# Altium schematic symbol library SenaCorpLibSCH.SchLib: 181 symbols (part 1 of 2)
Pins are listed as number, name and electrical type; pins without a type are passive.

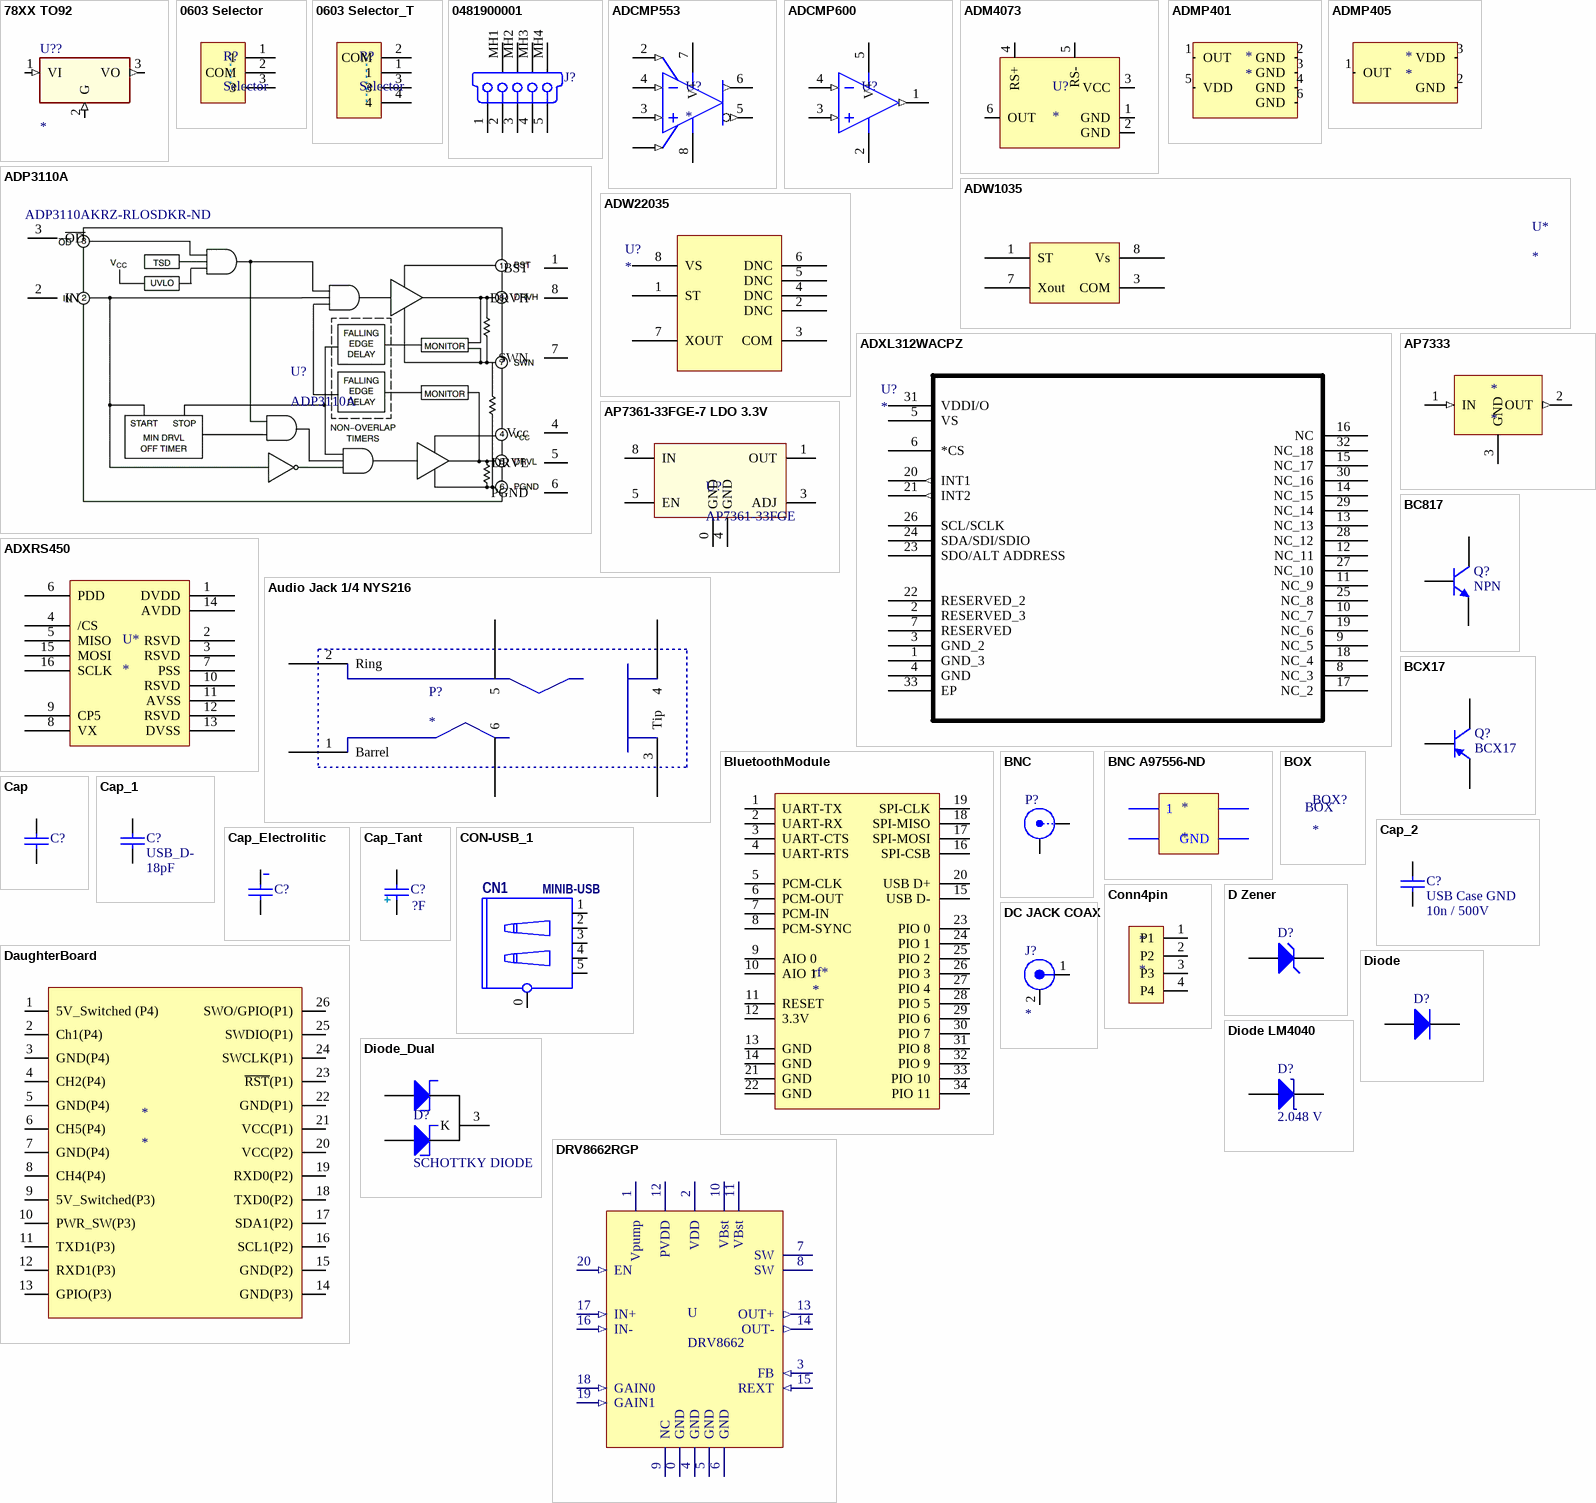
[diagram p0: symbols 78XX TO92 to DRV8662RGP]

## 78XX TO92
designator U??
footprint T0-220-H (T0-220 MOUNTED FLAT ON pcb)
pins: 1 VI (in), 2 G (in), 3 VO (out)

## 0603 Selector
designator R?, comment Selector
footprint 0603F3 (0603 Selector 2 choices, common center)
footprint 0603F3 - L Shape (0603 Selector 2 choices, common center)
pins: 1, 2 COM, 3

## 0603 Selector_T
designator R?, comment Selector
footprint 0603F3 - T Shape (0603 Selector 3 choices, common center)
pins: 1, 2 COM, 3, 4

## 0481900001
designator J?
USB On-The-Go (OTG) Mini-B Receptacle, Right Angle, SMT, 0.80mm (.031") Pitch, Solder Tabs with Back Cover, Recessed Type; PCB_Layout: Complies with Manufacturer's Recommendation.; Published: 21-Sep-2007; DatasheetVersion: revA, May-2004; PackageVersion: May-2004; PackageReference: 481900001; Publisher: Altium Limited; PackageDescription: USB Mini-B, Sinking Type, SM; 5 Position; Right Angle, Body 11.45 x 11.8 x 3.9 mm (LxWxH); ComponentLink1Description: Manufacturer Link; ComponentLink1URL: http://www.molex.com/; ComponentLink2Description: Datasheet; ComponentLink2URL: http://www.molex.com/cmc_upload/0/000/895/958/SD-48190-001RevA.pdf
footprint 481900001 (Connector; USB Mini-B, Sinking Type, SM; 5 Position; Right Angle)
signal-integrity model USB Mini-B
pins: 1 V BUS (5V) "USB Vcc [Red]", 2 D- "USB Data - [White]", 3 D+ "USB Data + [Green]", 4 NC "Not Connected (or joined to pin 5 via resistor)", 5 GND "Ground [Black]", MH1 Tab "Shell", MH2 Tab "Shell", MH3 Tab "Shell", MH4 Tab "Shell"

## ADCMP553
designator U?
Single Supply High Speed   PECL/LVPECL Comparators
footprint MSOP08 (Shrink Small Outline; 8 Leads; Body Width 3 mm; Pitch 0.65 mm)
pins: 1 ~{LEA} (in) "LATCH\ ENABLE\ INPUT", 2 LEA (in) "LATCH ENABLE INPUT", 3 IN+ (in) "NONINVERTING INPUT", 4 IN- (in) "INVERTING INPUT", 5 ~{Q} (out) "Q\ OUTPUT", 6 Q (out) "Q OUTPUT", 7 V+ (power) "Positive Supply Terminal", 8 AGND (power) "Analog Ground."

## ADCMP600
designator U?  (value not drawn)
Rail-to-Rail, Very Fast, 2.5 V to 5.5 V,   Single-Supply TTL/CMOS Comparators
footprint SOT23-5 (SOT23, 5-Leads, Body 2.9x1.6mm, Pitch 0.95mm, Lead Span 2.7mm, IPC Low Density)
footprint sc70-5
pins: 1 Q (out) "Noninverting Output. Q is at logic high if the analog voltage at the noninverting input, VP, is greater", 2 GND (power) "Negative Supply Voltage.", 3 IN+ (in) "Noninverting Analog Input.", 4 IN- (in) "Inverting Analog Input.", 5 V+ (power) "Input Section Supply/Output Section Supply. Shared pin."

## ADM4073
designator U?
Low Cost, Voltage Output,   High-Side, Current-Sense Amplifier
footprint SOT23-6_M (SOT23, 6-Leads, Body 2.9x1.6mm, Pitch 0.95mm, Lead Span 2.7mm, IPC Low Density)
pins: 1 GND "Chip Ground Pin.", 2 GND "Chip Ground Pin.", 3 VCC "Chip Power Supply. Requires a 0.1 µF capacitor to ground.", 4 RS+ "Power-Side Connection to the External Sense Resistor.", 5 RS- "Load-Side Connection to the External Sense Resistor", 6 OUT "Voltage Output. VOUT is proportional to VSENSE. Output impedance is approximately 12 kO"

## ADMP401
designator *
Omnidirectional Microphone with   Bottom Port and Analog Output
footprint LGA_CAV 6 terminal
pins: 1 OUT "ANALOG OUTPUT SIGNAL", 2 GND "GROUND", 3 GND "GROUND", 4 GND "GROUND", 5 VDD "POWER SUPPLY", 6 GND "GROUND"

## ADMP405
designator *
Omnidirectional Microphone with  Bottom Port and Analog Output
footprint LGA_CAV
pins: 1 OUT "ANALOG OUTPUT SIGNAL", 2 GND "GROUND", 3 VDD "POWER SUPPLY"

## ADP3110A
designator U?  Supplier Part Number 1: ADP3110AKRZ-RLOSDKR-ND
MOSFET Driver with Output  Disable; Voltage - Supply: 4.6 V ~ 13.2 V; Input Type: PWM; High Side Voltage - Max (Bootstrap): 35V; Configuration: High and Low Side, Synchronous; Supplier 1: Digi-Key; Pricing: 1=0.79, 10=0.666, 25=0.584, 100=0.4999, 250=0.43356, 500=0.36724, 1000=0.2831 (CAD); ComponentLink1URL: http://www.onsemi.com/pub_link/Collateral/ADP3110A-D.PDF; ComponentLink1Description: http://www.onsemi.com/pub_link/Collateral/ADP3110A-D.PDF
footprint SO8_M (SOIC, 8-Leads, Body 4.9x3.9mm, Pitch 1.27mm, IPC Low Density)
pins: 1 BST "Upper MOSFET Floating Bootstrap Supply. DIODE REQUIRED", 2 IN "Logic-Level Input. This pin has primary control of the drive outputs.", 3 ~{OD} "Output Disable. When low, normal operation is disabled forcing DRVH and DRVL low", 4 Vcc "Input Supply. A 1.0 F ceramic capacitor should be connected from this pin to PGND.", 5 DRVL "Output drive for the lower MOSFET", 6 PGND "D Power Ground. Should be closely connected to the source of the lower MOSFET", 7 SWN "Switch Node. Connect to the source of the upper MOSFET.", 8 DRVH "Output drive for the upper MOSFET."

## ADW1035
designator U*
Precision ±18 g Single-Axis iMEMS Accelerometer
footprint E_8_1 (Analog Devices LCC 8 terminal footprint)
pins: 1 ST, 2 NC hidden, 3 COM, 4 NC hidden, 5 NC hidden, 6 NC hidden, 7 Xout, 8 Vs

## ADW22035
designator U?
Precision ±18 g Single-Axis  iMEMS Accelerometer
footprint E_8_1 (Analog Devices LCC 8 terminal footprint)
pins: 1 ST, 2 DNC, 3 COM, 4 DNC, 5 DNC, 6 DNC, 7 XOUT, 8 VS

## ADXL312WACPZ
designator U?
Imported
footprint CP_32_17 (Analog Devices LFCSP 32 lead footprint)
pins: 1 GND_3, 2 RESERVED_3, 3 GND_2, 4 GND, 5 VS (power), 6 *CS, 7 RESERVED, 8 NC_3, 9 NC_5, 10 NC_7, 11 NC_9, 12 NC_11, 13 NC_13, 14 NC_15, 15 NC_17, 16 NC, 17 NC_2, 18 NC_4, 19 NC_6, 20 INT1 (out), 21 INT2 (out), 22 RESERVED_2, 23 SDO/ALT ADDRESS, 24 SDA/SDI/SDIO, 25 NC_8, 26 SCL/SCLK, 27 NC_10, 28 NC_12, 29 NC_14, 30 NC_16, 31 VDDI/O (power), 32 NC_18, 33 EP

## ADXRS450
designator U*
±300°/sec High Vibration Immunity Digital Gyroscope
footprint R-16A_M (16-Pin Small Outline Integrated Circuit 1.27 mm Pitch, IPC Low Density)
pins: 1 DVDD, 2 RSVD, 3 RSVD, 4 /CS, 5 MISO, 6 PDD, 7 PSS, 8 VX, 9 CP5, 10 RSVD, 11 AVSS, 12 RSVD, 13 DVSS, 14 AVDD, 15 MOSI, 16 SCLK

## AP7333
designator *
3.3 V regulator
footprint SOT23-3 (SOT23-3 MEDIUM DENSITY)
pins: 1 IN (in), 2 OUT (out), 3 GND

## AP7361-33FGE-7 LDO 3.3V
designator U?, comment AP7361-33FGE  Supplier Part Number: AP7361-33FGE-7DICT-ND
IC REG LDO 3.3V 1A 8DFN; Manufacturer Part Number: AP7361-33FGE-7; Manufacturer: Diodes Incorporated; Voltage - Dropout (Typical): 0.5V @ 1A; Voltage - Input: Up to 6V; Number of Regulators: 1; Current - Limit (Min): 1.1A; Regulator Topology: Positive Fixed; Supplier 1: Digi-Key; Package / Case: 8-UDFN Exposed Pad; Supplier: Digi-Key; Supplier Device Package: 8-UDFN3030; Category: Integrated Circuits (ICs); Operating Temperature: -40°C ~ 85°C; Current - Output: 1A; Voltage - Output: 3.3V; Packaging: Cut Tape (CT); RoHS: RoHS Compliant; Mounting Type: Surface Mount; Pricing: 1=0.82, 10=0.691, 25=0.6056, 100=0.5185, 250=0.44968, 500=0.3809, 1000=0.29364 (CAD); ComponentLink1URL: http://www.diodes.com/datasheets/AP7361.pdf; ComponentLink1Description: http://www.diodes.com/datasheets/AP7361.pdf
footprint DFN8 U-DFN3030-8
pins: 0 GND "Thermal Pad", 1 OUT "The output of the regulator. Bypass to ground through", 2 NC hidden "No connection.", 3 ADJ "Adjustable voltage version only – a resistor divider from", 4 GND "Ground.", 5 EN "Enable input, active high.", 6 NC hidden "No connection.", 7 NC hidden "No connection.", 8 IN "The input of the regulator. Bypass to ground through at"

## Audio Jack 1/4 NYS216
designator P?
1/4 Jack NYS216
footprint Jack (1/4 inch audio jack, stereo, switched inputs, NYS216)
pins: 1 Barrel, 2 Ring, 3 Tip, 4 "Tip", 5 "Tip", 6 "Tip"

## BC817
designator Q?, comment NPN
NPN BC817,215; Published: 8-Jun-2000; PackageVersion: Sep-1998; PackageReference: TO-92A; Publisher: Altium Limited; PackageDescription: TO, Flat Index; 3 In-Line, Axial Leads; Body Dia. 4.5mm; Leads 0.51 x 0.48 mm (max)
footprint SOT23-3 (SOT23-3 MEDIUM DENSITY)
pins: 1 B, 2 E, 3 C

## BCX17
designator Q?
PNP General-purpose Transistor; Published: 17-Sep-2003; LatestRevisionDate: 12-Dec-2006; LatestRevisionNote: IPC-7351 Footprint Added.; DatasheetVersion: 31-May-1999; PackageVersion: May-1999; PackageReference: SOT23; Publisher: Altium Limited; PackageDescription: 3-Pin SOT-23 Package 0.95 mm Pitch, 2.3 mm Lead Span; ComponentLink1Description: Manufacturer Link; ComponentLink1URL: http://www.semiconductors.philips.com/; ComponentLink2Description: Datasheet; ComponentLink2URL: http://www.semiconductors.philips.com/acrobat/datasheets/BCX17_BCX18_4.pdf
footprint SOT23_N (SOT23, 3-Leads, Body 2.9x1.3mm, Pitch 0.95mm, Lead Span 2.3mm, IPC Medium Density)
footprint SOT23_L (SOT23, 3-Leads, Body 2.9x1.3mm, Pitch 0.95mm, Lead Span 2.3mm, IPC High Density)
footprint SOT23_M (SOT23, 3-Leads, Body 2.9x1.3mm, Pitch 0.95mm, Lead Span 2.3mm, IPC Low Density)
simulation model QBCX17 (PNP)
signal-integrity model BCX17
pins: 1 B, 2 E, 3 C

## BluetoothModule
designator rf*
Bluetooth spec 2.0+edr compliant, only uart rx/tx works unless firmware changed
footprint Bluetooth Module (Flawed, please check corner)
pins: 1 UART-TX, 2 UART-RX, 3 UART-CTS, 4 UART-RTS, 5 PCM-CLK, 6 PCM-OUT, 7 PCM-IN, 8 PCM-SYNC, 9 AIO 0, 10 AIO 1, 11 RESET, 12 3.3V, 13 GND, 14 GND, 15 USB D-, 16 SPI-CSB, 17 SPI-MOSI, 18 SPI-MISO, 19 SPI-CLK, 20 USB D+, 21 GND, 22 GND, 23 PIO 0, 24 PIO 1, 25 PIO 2, 26 PIO 3, 27 PIO 4, 28 PIO 5, 29 PIO 6, 30 PIO 7, 31 PIO 8, 32 PIO 9, 33 PIO 10, 34 PIO 11

## BNC
designator P?
BNC Elbow Connector; LatestRevisionDate: 17-Jul-2002; LatestRevisionNote: Re-released for DXP Platform.; Publisher: Altium Limited
footprint BNC_RA CON (Connector; BNC Elbow)
signal-integrity model Connector
footprint BNC PCB EDGE (BNC BOARD BULKHEAD EDGE MOUNT)
pins: 1 X, 2 Y

## BNC A97556-ND
designator *
footprint BNC (Panel Mount, Bulkhead; Through Hole, Right Angle w/ Board Lock A97556-ND)
pins: 1 "Ground", 2 GND "Ground", 3 GND "Ground", 4 GND "Ground"

## BOX
designator BOX?
HM969-ND BOX ALUM 3.15X2.13X0.91" BL/NAT
footprint BOX (HM969-ND BOX ALUM 3.15X2.13X0.91" BL/NAT)
footprint Hammond Box - Larger (1455K1201 BOX ALUM 4.72X3.07X1.69" BL/NAT)

## Cap
designator C?
Capacitor; Published: 8-Jun-2000; LatestRevisionDate: 17-Jul-2002; LatestRevisionNote: Re-released for DXP Platform.; PackageReference: RAD-0.3; Publisher: Altium Limited
footprint RAD-0.3 (Capacitor; 2 Leads)
footprint VP32-3.2 (Capacitor, Ceramic, Thru-Hole, Dipped Radial; Body 5.1 x 3.2 mm (WxT) Pin Spacing 2.54 mm (typ))
footprint VP45-3.2 (Capacitor, Ceramic, Thru-Hole, Dipped Radial; Body 7.8 x 3.2 mm (WxT) Pin Spacing 5.08 mm (typ))
simulation model CAP (Capacitor)
signal-integrity model Cap
footprint CAPC1005M (Chip Capacitor, Body 1.0x0.5mm, IPC Low Density)
footprint CAPC1608M
footprint SMD0603-SST (SST SMD 0603 small silk screen)
footprint CAP-ELC-8X3.5-SM+TH
footprint 0603 (SMT  0603)
footprint C/6032-28R
pins: 1, 2

## Cap_1
designator C?, comment USB_D-  value 18pF
Capacitor; Published: 8-Jun-2000; LatestRevisionDate: 17-Jul-2002; LatestRevisionNote: Re-released for DXP Platform.; PackageReference: RAD-0.3; Publisher: Altium Limited
footprint RAD-0.3 (Capacitor; 2 Leads)
footprint VP32-3.2 (Capacitor, Ceramic, Thru-Hole, Dipped Radial; Body 5.1 x 3.2 mm (WxT) Pin Spacing 2.54 mm (typ))
footprint VP45-3.2 (Capacitor, Ceramic, Thru-Hole, Dipped Radial; Body 7.8 x 3.2 mm (WxT) Pin Spacing 5.08 mm (typ))
simulation model CAP (Capacitor)
signal-integrity model Cap
footprint CAPC1005M (Chip Capacitor, Body 1.0x0.5mm, IPC Low Density)
footprint CAPC1608M
pins: 1, 2

## Cap_2
designator C?, comment USB Case GND  value 10n / 500V
Capacitor; Published: 8-Jun-2000; LatestRevisionDate: 17-Jul-2002; LatestRevisionNote: Re-released for DXP Platform.; PackageReference: RAD-0.3; Publisher: Altium Limited
footprint RAD-0.3 (Capacitor; 2 Leads)
footprint VP32-3.2 (Capacitor, Ceramic, Thru-Hole, Dipped Radial; Body 5.1 x 3.2 mm (WxT) Pin Spacing 2.54 mm (typ))
footprint VP45-3.2 (Capacitor, Ceramic, Thru-Hole, Dipped Radial; Body 7.8 x 3.2 mm (WxT) Pin Spacing 5.08 mm (typ))
simulation model CAP (Capacitor)
signal-integrity model Cap
footprint CAPC1005M (Chip Capacitor, Body 1.0x0.5mm, IPC Low Density)
footprint CAPC1608M
pins: 1, 2

## Cap_Electrolitic
designator C?
Capacitor; Published: 8-Jun-2000; LatestRevisionDate: 17-Jul-2002; LatestRevisionNote: Re-released for DXP Platform.; PackageReference: RAD-0.3; Publisher: Altium Limited
footprint Capacitor Electrolitic 5mm
pins: 1, 2

## Cap_Tant
designator C?  value ?F
Capacitor; Published: 8-Jun-2000; LatestRevisionDate: 17-Jul-2002; LatestRevisionNote: Re-released for DXP Platform.; PackageReference: RAD-0.3; Publisher: Altium Limited
footprint C 6032-28R (Cap 2413 6032-28)
pins: +, -

## CON-USB_1
designator CN1, comment MINIB-USB
Manufacturer: Hirose Electric; MPNPV: UX60-MB-5ST; PN-SST: 325-022; ID-PV: 557; SMT: TH; CostPV: 0.3; descPV: MINI "B" USB 5P SMT; statPV: U; typePV: CONNECTOR; VAL: MINIB-USB; DigiKeyPartNumber: H2959TR-ND; IDPV: 557
footprint USB-B
footprint MINIB/HSM/HRS-NEW
footprint MINIB/HSM/HRS-NEW_CN1
footprint USB-B-mini-SMT (Hirose)
footprint USB Type B  Micro Plug (USB Type B  Micro Plug 10104109-0001LF 609-4051-ND)
footprint Micro USB IP67
pins: 0 GND, 1, 2, 3, 4, 5

## Conn4pin
designator *
footprint Bourns 70AB/Male (4 conn)
pins: 1 P1, 2 P2, 3 P3, 4 P4

## D Zener
designator D?
Zener Diode; Published: 8-Jun-2000; LatestRevisionDate: 17-Jul-2002; LatestRevisionNote: Re-released for DXP Platform.; PackageReference: DIODE-0.7; Publisher: Altium Limited; PackageDescription: Diode, Thru-Hole; 2 Leads; 0.7 in Pin Spacing
footprint DIODE-0.7 (Diode, Thru-Hole; 2 Leads; 0.7 in Pin Spacing)
simulation model ZENER (Diode)
signal-integrity model D Zener
pins: 1 A, 2 K

## DaughterBoard
designator *
footprint PowerBoardDaughter (Daughter board for power PCB)
pins: 1 5V_Switched (P4), 2 Ch1(P4), 3 GND(P4), 4 CH2(P4), 5 GND(P4), 6 CH5(P4), 7 GND(P4), 8 CH4(P4), 9 5V_Switched(P3) "Connector used for databoard", 10 PWR_SW(P3) "Connector used for databoard", 11 TXD1(P3) "Connector used for databoard", 12 RXD1(P3) "Connector used for databoard", 13 GPIO(P3) "Connector used for databoard", 14 GND(P3) "Connector used for databoard", 15 GND(P2), 16 SCL1(P2), 17 SDA1(P2), 18 TXD0(P2), 19 RXD0(P2), 20 VCC(P2), 21 VCC(P1) "Connector used for JTAG on power board MCU", 22 GND(P1) "Connector used for JTAG on power board MCU", 23 ~{RST}(P1) "Connector used for JTAG on power board MCU", 24 SWCLK(P1) "Connector used for JTAG on power board MCU", 25 SWDIO(P1) "Connector used for JTAG on power board MCU", 26 SWO/GPIO(P1) "Connector used for JTAG on power board MCU"

## DC JACK COAX
designator J?
footprint POWERJACK/2MM
footprint DC Barrel jack (CP-063AH-ND)
footprint DC Barrel Jack 2 (CP-102AH-ND  CONN PWR JACK 2.1X5.5MM HIGH CUR)
footprint DC Barrel jack - No Shield (CP-063AH-ND CONN PWR JACK DC 2.1X5.5 8A T/H)
footprint DC Barrel jack - SMD (CP-002BHPJCT-ND CONN POWER JACK 2.5X5.5MM HI CUR)
pins: 1 CENTER, 2 SHIELD

## Diode
designator D?
Default Diode; Published: 8-Jun-2000; LatestRevisionDate: 17-Jul-2002; LatestRevisionNote: Re-released for DXP Platform.; PackageVersion: Sep-1996; PackageReference: SMC; Publisher: Altium Limited; PackageDescription: DO-214-AB/SMC; 2 C-Bend Leads; Body 7.9 x 5.9 mm, inc. leads (LxW); Code_JEDEC: DO-214-AB
footprint SMC (DO-214-AB/SMC; 2 C-Bend Leads; Body 7.9 x 5.9 mm, inc. leads (LxW))
simulation model DIODE (Diode)
signal-integrity model Diode
footprint DIODE_SMA_SMC (Diode; 2 Leads, both SMC and SMA type)
footprint SOD-123 (SOD-123; 2 Leads; Body 2.7 x 1.6 mm, (LxW))
pins: 1 A, 2 K

## Diode LM4040
designator D?, comment 2.048 V
PRECISION MICROPOWER SHUNT VOLTAGE REFERENCE; Note: Pin 3 is not connected and not drawn.; Published: 21-Mar-2003; PackageVersion: Sep-2001; PackageReference: SOT-23; Publisher: Altium Limited; PackageDescription: 3-Pin SOT-23 Package 0.95 mm Pitch, 2.5 mm Lead Span
footprint SOT-23_N (SOT23, 3-Leads, Body 2.9x1.3mm, Pitch 0.95mm, Lead Span 2.5mm, IPC Medium Density)
footprint SOT-23_L (SOT23, 3-Leads, Body 2.9x1.3mm, Pitch 0.95mm, Lead Span 2.5mm, IPC High Density)
footprint SOT-23_M (SOT23, 3-Leads, Body 2.9x1.3mm, Pitch 0.95mm, Lead Span 2.5mm, IPC Low Density)
simulation model D188 (DIODE)
pins: 1 K, 2 A

## Diode_Dual
designator D?, comment SCHOTTKY DIODE
1 Pair Common Cathode
simulation model DIODE (Diode)
signal-integrity model Diode
footprint SOT23-3 (SOT23-3 MEDIUM DENSITY)
pins: 1 A1, 2 A2, 3 K

## DRV8662RGP
designator U, comment DRV8662
Piezo Haptic Driver with Integrated Boost Converter
footprint QFN50P400X400-20VM (QFN, 20-Leads, Body 4x4mm, Pitch 0.5mm, IPC Low Density)
pins: 0 GND (power) "Ground Plane", 1 Vpump (power) "Internal Charge-pump voltage", 2 VDD (power) "Power supply (connect to battery)", 3 FB (in) "Boost feedback", 4 GND (power) "Ground", 5 GND (power) "Ground", 6 GND (power) "Ground", 7 SW (power) "Internal boost switch pin", 8 SW (power) "Internal boost switch pin", 9 NC "No Conect", 10 VBst (power) "Boost output voltage", 11 VBst (power) "Boost output voltage", 12 PVDD (power) "Amplifier supply voltage", 13 OUT+ (out) "Non-inverting output", 14 OUT- (out) "Inverting output", 15 REXT (in) "Resistor to ground, sets boost current limit", 16 IN- (in) "Inverting input", 17 IN+ (in) "Non-inverting input", 18 GAIN0 (in) "Gain programming pin - LSB", 19 GAIN1 (in) "Gain programming pin - MSB", 20 EN (in) "Chip enable"

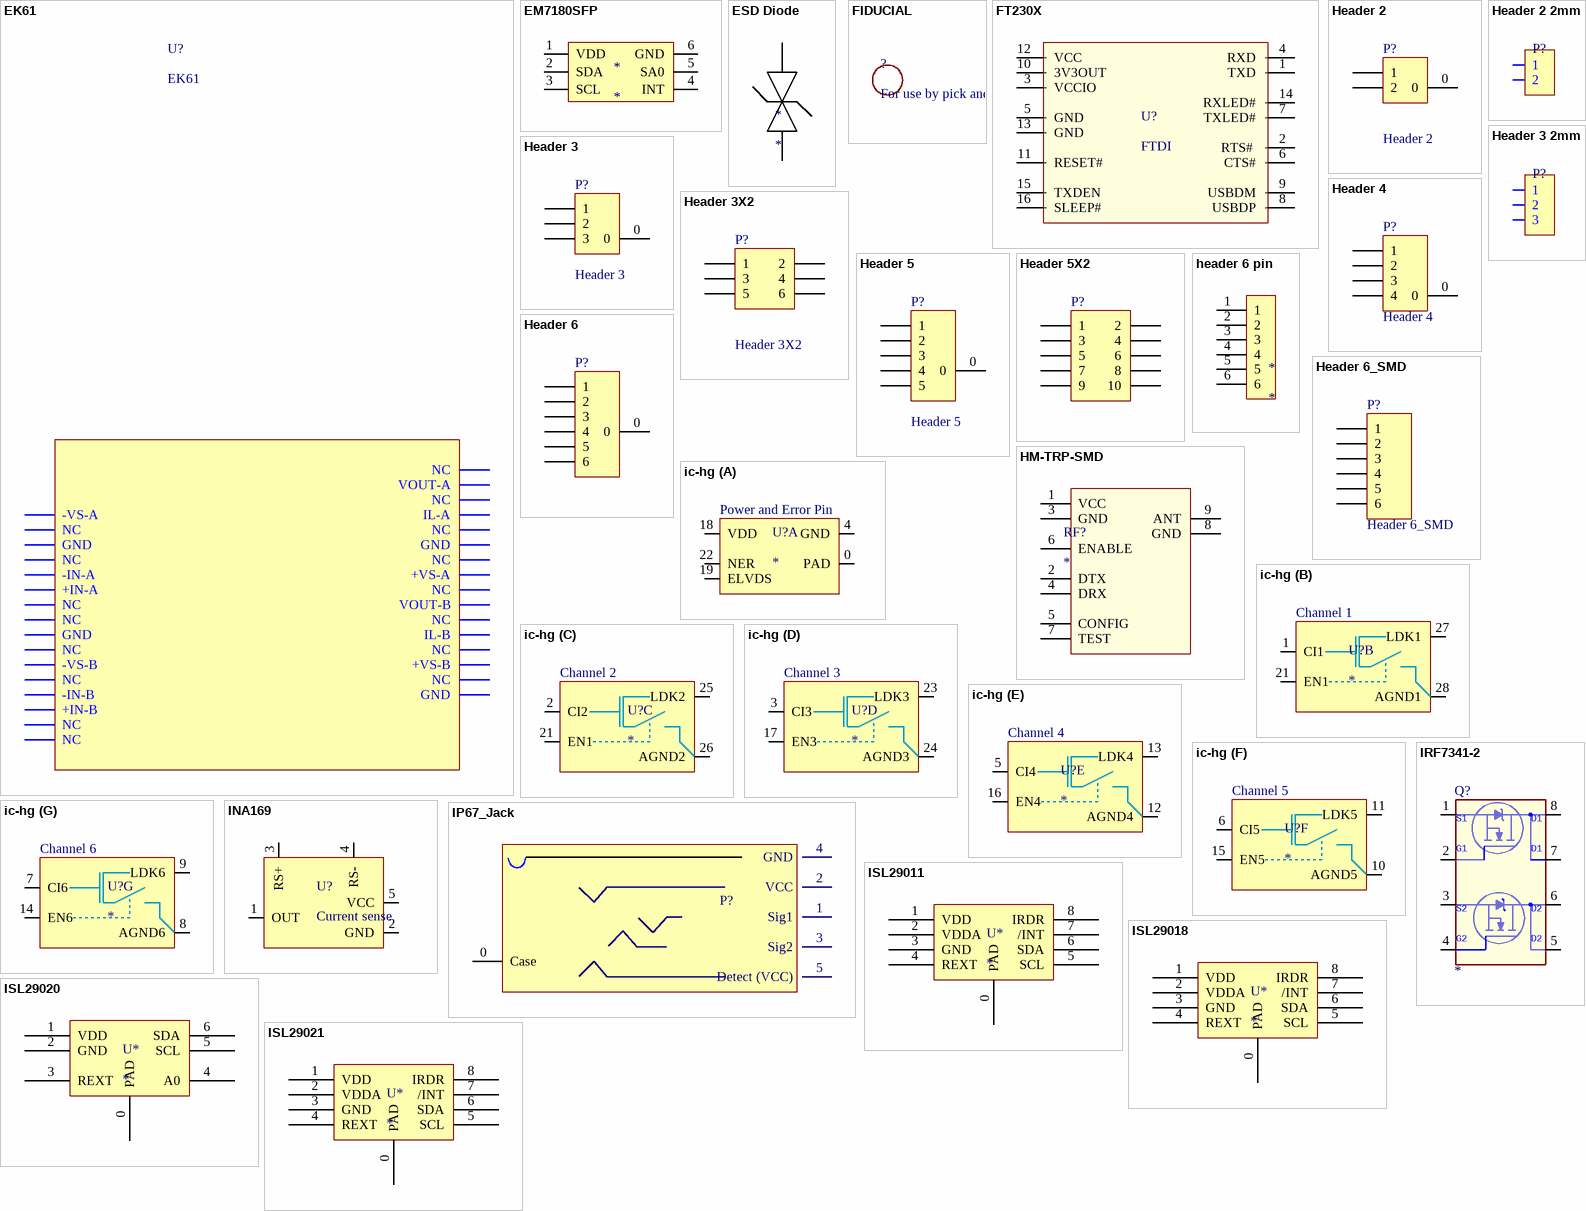
[diagram p1: symbols EK61 to ISL29021]

## EK61
designator U?
PA79 Pa78 Dev board
footprint EK61
pins: 1 NC, 2 NC, 3 +IN-B "B +IN", 4 -IN-B "B -IN", 5 NC, 6 -VS-B "B SUPPLY -", 7 NC, 8 GND "Ground", 9 NC, 10 NC, 11 +IN-A "A +IN", 12 -IN-A "A -IN", 13 NC, 14 GND "Ground", 15 NC, 16 -VS-A "A SUPPLY -", 17 NC, 18 VOUT-A "A VOUT", 19 NC, 20 IL-A "A CURRENT LIMIT", 21 NC, 22 GND "Ground", 23 NC, 24 +VS-A "A SUPPLY +", 25 NC, 26 VOUT-B "B VOUT", 27 NC, 28 IL-B "B CURRENT LIMIT", 29 NC, 30 +VS-B "B SUPPY +", 31 NC, 32 GND "Ground"

## EM7180SFP
designator *
footprint EM7180SFP (EM Micro IMU)
pins: 1 VDD, 2 SDA, 3 SCL, 4 INT, 5 SA0, 6 GND

## ESD Diode
designator *
footprint 0402
pins: 1, 2

## FIDUCIAL
designator ?, comment For use by pick and place machines to calibrate the vision/machine, 1mm / <p>By microbuilder.eu</p>
footprint FIDUCIAL_1MM

## FT230X
designator U?, comment FTDI
FT230X USB TO BASIC UART IC
footprint SOP64P600X175-16N (SOP, 16-Leads, Body 4.90x3.91mm, Pitch 0.64mm, IPC Medium Density)
footprint QFN65P400X400X80_HS-17N (QFN, 16-Leads, Body 4.00x4.00mm, Pitch 0.65mm, Thermal Pad 2.08x2.08mm, IPC Medium Density)
pins: 1 TXD "Transmit Asynchronous Data Output.", 2 RTS#  "Request to Send Control Output / Handshake Signal.", 3 VCCIO "1V8 - 3V3 supply for the IO cells", 4 RXD "Receiving Asynchronous Data Input.", 5 GND "0V Ground input.", 6 CTS# "Clear To Send Control Input / Handshake Signal.", 7 TXLED# "The default configuration is TXLED#.", 8 USBDP "USB Data Signal Plus.", 9 USBDM "USB Data Signal Minus.", 10 3V3OUT "3V3 output at 50mA. May be used to power VCCIO.", 11 RESET# "Reset input (active low).", 12 VCC "5 V (or 3V3) supply to IC", 13 GND "0V Ground input.", 14 RXLED# "The default configuration is RXLED#.", 15 TXDEN "The default configuration is TXDEN", 16 SLEEP# "The default configuration is SLEEP#"

## Header 2
designator P?
Header, 2-Pin; LatestRevisionDate: 17-Jul-2002; LatestRevisionNote: Re-released for DXP Platform.; Publisher: Altium Limited
signal-integrity model Connector
footprint DF13 2pin (DF13 2pin 1.25mm pitch)
footprint PTSM 0,5/ 2-2,5-H (PCB terminal block Pitch: 2.5 mm, Number of positions: 2, Connection method: Spring-cage connection)
pins: 0, 1, 2

## Header 2 2mm
designator P?  (value not drawn)
footprint Header 2 2mm (SIP Header 2.0mm 2 pins)
pins: 1, 2

## Header 3
designator P?
Header, 3-Pin; LatestRevisionDate: 17-Jul-2002; LatestRevisionNote: Re-released for DXP Platform.; Publisher: Altium Limited
signal-integrity model Connector
footprint DF13 3pin (DF13 3pin 1.25mm pitch)
pins: 0, 1, 2, 3

## Header 3 2mm
designator P?  (value not drawn)
footprint Header 3 2mm (SIP Header 2.0mm 3 pins)
pins: 1, 2, 3

## Header 3X2
designator P?
Header, 3-Pin, Dual row; LatestRevisionDate: 17-Jul-2002; LatestRevisionNote: Re-released for DXP Platform.; Publisher: Altium Limited
signal-integrity model Connector
footprint m50- 3 x  2 (smd connector)
pins: 1, 2, 3, 4, 5, 6

## Header 4
designator P?
Header, 4-Pin; LatestRevisionDate: 17-Jul-2002; LatestRevisionNote: Re-released for DXP Platform.; Publisher: Altium Limited
signal-integrity model Connector
footprint DF13 4pin (DF13 4pin 1.25mm pitch)
pins: 0, 1, 2, 3, 4

## Header 5
designator P?
Header, 5-Pin; LatestRevisionDate: 17-Jul-2002; LatestRevisionNote: Re-released for DXP Platform.; Publisher: Altium Limited
footprint HDR1X5 (Connector; Header; 5 Position)
signal-integrity model Connector
footprint DF13 5pin (DF13 5pin 1.25mm pitch)
pins: 0, 1, 2, 3, 4, 5

## Header 5X2
designator P?
Header, 5-Pin, Dual row; LatestRevisionDate: 17-Jul-2002; LatestRevisionNote: Re-released for DXP Platform.; Publisher: Altium Limited
signal-integrity model Connector
footprint m50-3600542 (ARM JTAG) (ARM JTAG smd connector)
footprint Two sided Jtag (ARM JTAG smd connector)
footprint Header 2 x 5 1.27mm
pins: 1, 2, 3, 4, 5, 6, 7, 8, 9, 10

## Header 6
designator P?
Header, 6-Pin; LatestRevisionDate: 17-Jul-2002; LatestRevisionNote: Re-released for DXP Platform.; Publisher: Altium Limited
footprint HDR1X6 (Connector; Header; 6 Position)
signal-integrity model Connector
footprint DF13 6pin (DF13 6pin 1.25mm pitch)
pins: 0, 1, 2, 3, 4, 5, 6

## header 6 pin
designator *
footprint Header 6 1.27mm (SIP Header 1.27mm 6 pins)
footprint Ribbon 6 Pad
pins: 1, 2, 3, 4, 5, 6

## Header 6_SMD
designator P?
Header, 6-Pin SMD; LatestRevisionDate: 17-Jul-2002; LatestRevisionNote: Re-released for DXP Platform.; Publisher: Altium Limited
footprint HDR1X6 (Connector; Header; 6 Position)
signal-integrity model Connector
footprint Header 1 x 6 1.27mm
footprint Header 6 1.27mm (SIP Header 1.27mm 6 pins)
pins: 1, 2, 3, 4, 5, 6

## HM-TRP-SMD
designator RF?
HM-TRP Series 100mW Transceiver modules V1.0
footprint HM-TRP (HM-TRP Series 100mW Transceiver modules V1.0)
footprint HM-TRP - SMD (HM-TRP Series 100mW Transceiver modules V1.0)
pins: 1 VCC "Power supply recommendation 3.3V DC", 2 DTX "Data transmission", 3 GND "Ground", 4 DRX "Data receiving", 5 CONFIG "Set low for configuration mode, while set high for communication", 6 ENABLE "Set low for normal mode for data transceiver , while back to sleep if set high", 7 TEST "n/c", 8 GND "Ground", 9 ANT "Input/output interface with 50 ohm antenna"

## ic-hg
designator U?
3 A LASER SWITCH
footprint QFN28 (28-Pin Plastic Quad Flat No-Lead 0.5 mm Pitch, IPC Low Density)
part A pins: 0 PAD "Thermal Pad GND, AGNDx", 4 GND "Ground", 18 VDD "Supply voltage", 19 ELVDS "TTL/LVDS Fast/Slow Input selector", 22 NER "Error monitor output"
part B pins: 1 CI1 "Current control voltage channel 1", 21 EN1 "TTL switching input channel 1", 27 LDK1 "Laser diode cathode channel 1", 28 AGND1 "Analog ground channel 1"
part C pins: 2 CI2 "Current control voltage channel 2", 21 EN1 "TTL switching input channel 1", 25 LDK2 "Laser diode cathode channel 2", 26 AGND2 "Analog ground channel 2"
part D pins: 3 CI3 "Current control voltage channel 3", 17 EN3 "TTL switching input channel 3", 23 LDK3 "Laser diode cathode channel 3", 24 AGND3 "Analog ground channel 3"
part E pins: 5 CI4 "Current control voltage channel 4", 12 AGND4 "Analog ground channel 4", 13 LDK4 "Laser diode cathode channel 4", 16 EN4 "TTL switching input channel 4"
part F pins: 6 CI5 "Current control voltage channel 5", 10 AGND5 "Analog ground channel 5", 11 LDK5 "Laser diode cathode channel 5", 15 EN5 "TTL switching input channel 5"
part G pins: 7 CI6 "Current control voltage channel 6", 8 AGND6 "Analog ground channel 6", 9 LDK6 "Laser diode cathode channel 6", 14 EN6 "TTL switching input channel 6"
part A text: Power and Error Pin
part B text: Channel 1
part C text: Channel 2
part D text: Channel 3
part E text: Channel 4
part F text: Channel 5
part G text: Channel 6

## INA169
designator U?, comment Current sense
High-Side Measurement Current Shunt Monitor, Current Output
footprint SOT23-5 (SOT23, 5-Leads, Body 2.9x1.6mm, Pitch 0.95mm, Lead Span 2.7mm, IPC Low Density)
pins: 1 OUT "Voltage Output. VOUT is proportional to VSENSE. Output impedance is approximately 12 kO", 2 GND "Chip Ground Pin.", 3 RS+ "Power-Side Connection to the External Sense Resistor.", 4 RS- "Load-Side Connection to the External Sense Resistor", 5 VCC "Chip Power Supply. Requires a 0.1 µF capacitor to ground."

## IP67_Jack
designator P?  (value not drawn)
IP67 4 pole jack
footprint AudioJack IPX7 (LGY2109-3900F)
pins: 0 Case, 1 Sig1, 2 VCC, 3 Sig2, 4 GND, 5 Detect (VCC)

## IRF7341-2
designator Q?
footprint SOIC8/.150
footprint SO8
pins: 1 S1, 2 G1, 3 S2, 4 G2, 5 D2, 6 D2, 7 D1, 8 D1

## ISL29011
designator U*
Digital Ambient Light Sensor and Proximity Sensor with Interrupt Function
footprint 8 LD ODFN
pins: 0 PAD, 1 VDD, 2 VDDA, 3 GND, 4 REXT, 5 SCL, 6 SDA, 7 /INT, 8 IRDR

## ISL29018
designator U*
Digital Ambient Light Sensor and Proximity Sensor with Interrupt Function
footprint 8 LD ODFN
pins: 0 PAD, 1 VDD, 2 VDDA, 3 GND, 4 REXT, 5 SCL, 6 SDA, 7 /INT, 8 IRDR

## ISL29020
designator U*
A Low Power, High Sensitivity, Light-to Digital Sensor With I2C Interface
footprint 6 LD ODFN
pins: 0 PAD, 1 VDD, 2 GND, 3 REXT, 4 A0, 5 SCL, 6 SDA

## ISL29021
designator U*
Digital Proximity Sensor with Interrupt  Function
footprint 8 LD ODFN
pins: 0 PAD, 1 VDD, 2 VDDA, 3 GND, 4 REXT, 5 SCL, 6 SDA, 7 /INT, 8 IRDR

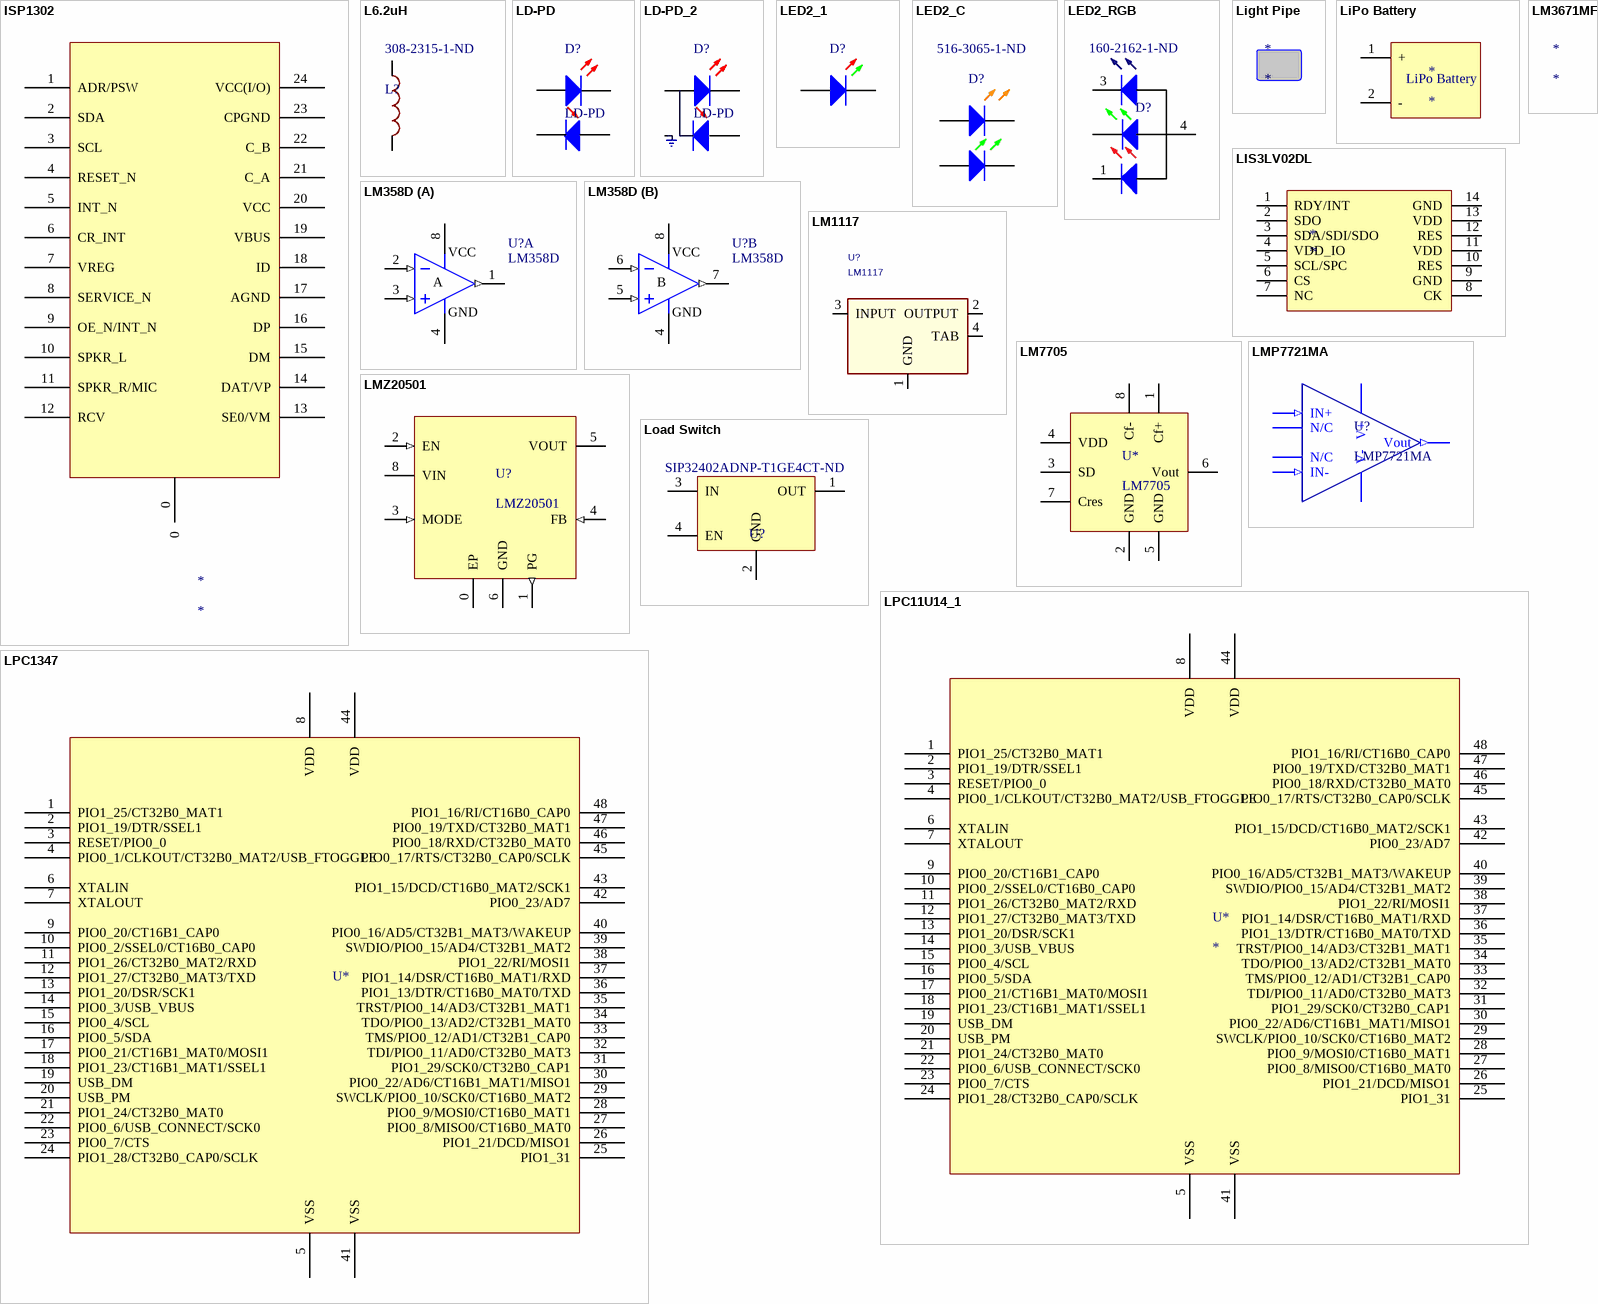
[diagram p2: symbols ISP1302 to LPC1347]

## ISP1302
designator *
footprint QFN50P400X400-24W6M (QFN, 24-Leads, Body 4x4mm, Pitch 0.5mm, IPC Low Density)
pins: 0, 1 ADR/PSW, 2 SDA, 3 SCL, 4 RESET_N, 5 INT_N, 6 CR_INT, 7 VREG, 8 SERVICE_N, 9 OE_N/INT_N, 10 SPKR_L, 11 SPKR_R/MIC, 12 RCV, 13 SE0/VM, 14 DAT/VP, 15 DM, 16 DP, 17 AGND (power), 18 ID, 19 VBUS, 20 VCC (power), 21 C_A, 22 C_B, 23 CPGND (power), 24 VCC(I/O) (power)

## L6.2uH
designator L?, comment Supplier Part Number 1: 308-2315-1-ND  (hidden comment: 6.2uH)
Inductor; Tolerance: ±30%; Supplier 1: Digi-Key; Pricing: 1=1.36, 10=1.199, 25=1.1244, 50=0.9746, 100=0.8996, 500=0.77962 (CAD); ComponentLink1Description: http://products.sumida.com/products/pdf/CDRH6D38.pdf
footprint Inductor (non Std)
pins: 1, 2

## LD-PD
designator D?
Laser diode with Monitor Photodiode; Published: 8-Jun-2000; LatestRevisionDate: 17-Jul-2002; LatestRevisionNote: Re-released for DXP Platform.; PackageVersion: Feb-2002; PackageReference: 3.2X1.6X1.1; Publisher: Altium Limited; PackageDescription: SM LED; 2 Flat Leads
footprint ld pd (Edge Connected Laser diode with photodiode)
footprint LD (chinese) (Bottom View of Laser driver (mounted from opposite side))
pins: 1 LD-A "Laser diode Anode and PD Cathode", 2 LD-K "Laser Diode Cathode", 3 PD-A "Photodidoe Anode", 4 PD-K "Photodidoe Cathode"

## LD-PD_2
designator D?, comment LD-PD
Laser diode with Monitor Photodiode; Published: 8-Jun-2000; LatestRevisionDate: 17-Jul-2002; LatestRevisionNote: Re-released for DXP Platform.; PackageVersion: Feb-2002; PackageReference: 3.2X1.6X1.1; Publisher: Altium Limited; PackageDescription: SM LED; 2 Flat Leads
footprint ld pd (Edge Connected Laser diode with photodiode)
pins: 1 GND "Case Gnd", 2 LD-K "Laser Diode Cathode", 3 PD-A "Photodidoe Anode", 4 LD-A "Laser diode Anode and PD Cathode"

## LED2_1
designator D?
Typical RED, GREEN, YELLOW, AMBER GaAs LED; Published: 8-Jun-2000; LatestRevisionDate: 17-Jul-2002; LatestRevisionNote: Re-released for DXP Platform.; PackageVersion: Feb-2002; PackageReference: 3.2X1.6X1.1; Publisher: Altium Limited; PackageDescription: SM LED; 2 Flat Leads
footprint LED0603 (SMT LED 0603)
simulation model LED2 (Diode)
pins: 1 A, 2 K

## LED2_C
designator D?  Supplier Part Number: 516-3065-1-ND  (hidden comment: LED2_C)
Two Color Led; Manufacturer: Avago Technologies US Inc.; Manufacturer Part Number: HSMF-C167; Current - Test: 20mA Green, 20mA Orange; Wavelength - Peak: 570nm Green, 605nm Orange; Millicandela Rating: 15mcd Green, 8mcd Orange; Lens Color: White; Voltage - Forward (Vf) (Typ): 2.2V Green, 2.2V Orange; Color: Green, Orange; Lens Style/Size: Rectangle with Flat Top, 1.60mm x 0.80mm; Wavelength - Dominant: 572nm Green, 604nm Orange; Viewing Angle: 120°; Lens Transparency: Diffused; Published: 8-Jun-2000; LatestRevisionDate: 17-Jul-2002; LatestRevisionNote: Re-released for DXP Platform.; PackageVersion: Feb-2002; PackageReference: 3.2X1.6X1.1; Publisher: Altium Limited; PackageDescription: SM LED; 2 Flat Leads; Supplier 1: Digi-Key; Category: Optoelectronics; Packaging: Cut Tape (CT); Height (Max): 0.50mm; Package / Case: 0603 (1608 Metric); RoHS: RoHS Compliant; Supplier Device Package: *; Supplier: Digi-Key; Mounting Type: Surface Mount; Size / Dimension: 1.60mm L x 0.80mm W; Pricing: 1=0.7, 10=0.54, 25=0.4392, 100=0.3494, 250=0.29952, 500=0.25958, 1000=0.19576 (CAD); ComponentLink1URL: http://www.avagotech.com/docs/AV02-0584EN; ComponentLink1Description: http://www.avagotech.com/docs/AV02-0584EN
footprint LED 2Color (HSMF-C16x 516-3065-1-ND)
pins: 1 A1, 2 K1, 3 A2, 4 K2

## LED2_RGB
designator D?  Supplier Part Number: 160-2162-1-ND  (hidden comment: LED2_RGB)
RGB Led; Manufacturer Part Number: LTST-C19HE1WT; Manufacturer: Lite-On Inc; Lens Transparency: Diffused; Millicandela Rating: 112.5mcd Red, 281mcd Green, 104mcd Blue; Wavelength - Dominant: 624nm Red, 525nm Green, 470nm Blue; Wavelength - Peak: 632nm Red, 520nm Green, 468nm Blue; Lens Color: White; Current - Test: 20mA Red, 20mA Green, 20mA Blue; Voltage - Forward (Vf) (Typ): 2.1V Red, 3.35V Green, 3.35V Blue; Color: Red, Green, Blue (RGB); Lens Style/Size: Rectangle with Flat Top, 1.15mm x 1.60mm; Viewing Angle: 130°; Package / Case: 0606 (1616 Metric); Supplier: Digi-Key; Height (Max): 0.35mm; Size / Dimension: 1.60mm L x 1.60mm W; RoHS: RoHS Compliant; Mounting Type: Surface Mount; Category: Optoelectronics; Packaging: Cut Tape (CT); Supplier Device Package: *; Pricing: 1=0.82, 10=0.632, 100=0.4097, 250=0.35112, 500=0.3043, 1000=0.23407 (CAD); ComponentLink1URL: http://optoelectronics.liteon.com/upload/download/DS22-2008-0044/S_110_LTST-C19HE1WT.pdf; ComponentLink1Description: http://optoelectronics.liteon.com/upload/download/DS22-2008-0044/S_110_LTST-C19HE1WT.pdf
footprint LED RGB (160-2162-1-ND)
pins: 1, 2, 3, 4

## Light Pipe
designator *

## LiPo Battery
designator *
footprint LiPo Battery (2000mAh)
pins: 1 +, 2 -

## LIS3LV02DL
designator *
MEMS inertial sensor  3-axis - ±2g/±6g digital output low voltage linear accelerometer
footprint LCC16
pins: 1 RDY/INT, 2 SDO, 3 SDA/SDI/SDO, 4 VDD_IO, 5 SCL/SPC, 6 CS, 7 NC, 8 CK, 9 GND, 10 RES, 11 VDD, 12 RES, 13 VDD, 14 GND

## LM358D
designator U?
Dual Operational Amplifier; Published: 16-Jan-2001; LatestRevisionDate: 13-Apr-2006; LatestRevisionNote: IPC-7351 Footprint Added.; DatasheetVersion: Jul-1998; PackageVersion: Jan-1998; PackageReference: D008; Publisher: Altium Limited; PackageDescription: 8-Pin Small Outline Integrated Circuit 1.27 mm Pitch; Code_IPC: SOIC127P600-8; ComponentLink1Description: Manufacturer Link; ComponentLink1URL: http://www.ti.com/; ComponentLink2Description: Datasheet; ComponentLink2URL: http://www-s.ti.com/sc/ds/lm358.pdf
footprint D008_L (SOIC, 8-Leads, Body 4.9x3.9mm, Pitch 1.27mm, IPC High Density)
3D model D008 (PCB3D Model)
simulation model LM358 (SUBCKT)
pins on every part: 4 V- (power), 8 V+ (power)
part A pins: 1 OUT (out), 2 IN- (in), 3 IN+ (in)
part B pins: 5 IN+ (in), 6 IN- (in), 7 OUT (out)
part A text: VCC; A; GND
part B text: VCC; B; GND

## LM1117
designator U?
footprint SOT223 - 4 (SOT223-4)
pins: 1 GND, 2 OUTPUT, 3 INPUT, 4 TAB

## LM3671MF
designator *

## LM7705
designator U*
Low Noise Negative Bias Generator
footprint SO8
pins: 1 Cf+ "CFLY Positive Capacitor Connection", 2 GND "Power Ground", 3 SD "Shutdown Pin", 4 VDD "Positive Supply Voltage", 5 GND "Power Ground", 6 Vout "Output Voltage", 7 Cres "Reserve Capacitor Connection", 8 Cf- "CFLY Negative Capacitor Connection"

## LMP7721MA
designator U?
3 Femtoampere Input Bias Current Precision Amplifier
footprint D008_L (SOIC, 8-Leads, Body 4.9x3.9mm, Pitch 1.27mm, IPC High Density)
pins: 1 IN+ (in) "Input +", 2 N/C, 3 V- "Negative Supply", 4 Vout (out) "Output", 5 N/C hidden, 6 V+ "Positive Supply", 7 N/C, 8 IN- (in) "Input -"

## LMZ20501
designator U?
LMZ20501 1.0 A SIMPLE SWITCHER® Nano Module
pins: 0 EP (power) "Ground and heat-sink connection.", 1 PG (out) "Power good flag; open drain. Connect to logic supply through a resistor. High = power good; Low =", 2 EN (in) "Enable input. High = On, Low = Off. A valid input voltage, on pin 8, must be present before EN is", 3 MODE (in) "Mode selection input. High = forced PWM. Low = AUTO mode, with PFM at light load . Do not float", 4 FB (in) "Feedback input to controller. Connect to output through feedback divider.", 5 VOUT (power) "Regulated output voltage; connect to COUT.", 6 GND (power) "Ground for all circuitry. Reference point for all voltages", 7 NC hidden "This pin must be left floating. Do not connect to ground or any other node.", 8 VIN (power) "Input supply to regulator. Connect to input capacitor(s) as close as possible to the VIN pin and GND"

## Load Switch
designator U?  Supplier Part Number: SIP32402ADNP-T1GE4CT-ND  (hidden comment: Load Switch)
IC SW W/CTRL SLEW RATE 4TDFN; Manufacturer: Vishay Siliconix; Manufacturer Part Number: SIP32402ADNP-T1GE4; Current - Output (Max): 2.4A; Fault Protection: Reverse Current; Voltage - Supply (Vcc/Vdd): Not Required; Rds On (Typ): 62 mOhm; Switch Type: General Purpose; Ratio - Input:Output: 1:1; Output Configuration: High Side; Interface: On/Off; Output Type: N-Channel; Number of Outputs: 1; Voltage - Load: 1.1 V ~ 5.5 V; Input Type: Non-Inverting; ComponentLink1URL: http://www.vishay.com/docs/63705/sip32401a.pdf; ComponentLink1Description: http://www.vishay.com/docs/63705/sip32401a.pdf; Pricing: 1=0.78, 10=0.605, 25=0.5104, 100=0.416, 250=0.34452, 500=0.28462, 1000=0.21317 (CAD); Supplier: Digi-Key; RoHS: RoHS Compliant; Category: Integrated Circuits (ICs); Package / Case: 4-UFDFN Exposed Pad; Operating Temperature: -40°C ~ 125°C (TJ); Packaging: Cut Tape (CT); Features: Load Discharge, Slew Rate Controlled; Supplier Device Package: 4-TDFN (1.2x1.6)
footprint DFN4
pins: 1 OUT "output pin of the switch", 2 GND "Ground connection", 3 IN "input pin of the switch", 4 EN "Enable input"

## LPC11U14_1
designator U*
32-bit ARM Cortex-M0 microcontroller; up to 32 kB flash; 6 kB  SRAM; USB device; USART
footprint VBH48A_L (Thin QFP, 48-Leads, Body 7x7mm, Pitch 0.5mm, IPC High Density)
pins: 1 PIO1_25/CT32B0_MAT1, 2 PIO1_19/DTR/SSEL1, 3 RESET/PIO0_0, 4 PIO0_1/CLKOUT/CT32B0_MAT2/USB_FTOGGLE, 5 VSS, 6 XTALIN, 7 XTALOUT, 8 VDD, 9 PIO0_20/CT16B1_CAP0, 10 PIO0_2/SSEL0/CT16B0_CAP0, 11 PIO1_26/CT32B0_MAT2/RXD, 12 PIO1_27/CT32B0_MAT3/TXD, 13 PIO1_20/DSR/SCK1, 14 PIO0_3/USB_VBUS, 15 PIO0_4/SCL, 16 PIO0_5/SDA, 17 PIO0_21/CT16B1_MAT0/MOSI1, 18 PIO1_23/CT16B1_MAT1/SSEL1, 19 USB_DM, 20 USB_PM, 21 PIO1_24/CT32B0_MAT0, 22 PIO0_6/USB_CONNECT/SCK0, 23 PIO0_7/CTS, 24 PIO1_28/CT32B0_CAP0/SCLK, 25 PIO1_31, 26 PIO1_21/DCD/MISO1, 27 PIO0_8/MISO0/CT16B0_MAT0, 28 PIO0_9/MOSI0/CT16B0_MAT1, 29 SWCLK/PIO0_10/SCK0/CT16B0_MAT2, 30 PIO0_22/AD6/CT16B1_MAT1/MISO1, 31 PIO1_29/SCK0/CT32B0_CAP1, 32 TDI/PIO0_11/AD0/CT32B0_MAT3, 33 TMS/PIO0_12/AD1/CT32B1_CAP0, 34 TDO/PIO0_13/AD2/CT32B1_MAT0, 35 TRST/PIO0_14/AD3/CT32B1_MAT1, 36 PIO1_13/DTR/CT16B0_MAT0/TXD, 37 PIO1_14/DSR/CT16B0_MAT1/RXD, 38 PIO1_22/RI/MOSI1, 39 SWDIO/PIO0_15/AD4/CT32B1_MAT2, 40 PIO0_16/AD5/CT32B1_MAT3/WAKEUP, 41 VSS, 42 PIO0_23/AD7, 43 PIO1_15/DCD/CT16B0_MAT2/SCK1, 44 VDD, 45 PIO0_17/RTS/CT32B0_CAP0/SCLK, 46 PIO0_18/RXD/CT32B0_MAT0, 47 PIO0_19/TXD/CT32B0_MAT1, 48 PIO1_16/RI/CT16B0_CAP0

## LPC1347
designator U*  (value not drawn)
32-bit ARM Cortex-M3microcontroller; up to 32 kB flash; 6 kB  SRAM; USB device; USART
footprint VBH48A_L (Thin QFP, 48-Leads, Body 7x7mm, Pitch 0.5mm, IPC High Density)
pins: 1 PIO1_25/CT32B0_MAT1, 2 PIO1_19/DTR/SSEL1, 3 RESET/PIO0_0, 4 PIO0_1/CLKOUT/CT32B0_MAT2/USB_FTOGGLE, 5 VSS, 6 XTALIN, 7 XTALOUT, 8 VDD, 9 PIO0_20/CT16B1_CAP0, 10 PIO0_2/SSEL0/CT16B0_CAP0, 11 PIO1_26/CT32B0_MAT2/RXD, 12 PIO1_27/CT32B0_MAT3/TXD, 13 PIO1_20/DSR/SCK1, 14 PIO0_3/USB_VBUS, 15 PIO0_4/SCL, 16 PIO0_5/SDA, 17 PIO0_21/CT16B1_MAT0/MOSI1, 18 PIO1_23/CT16B1_MAT1/SSEL1, 19 USB_DM, 20 USB_PM, 21 PIO1_24/CT32B0_MAT0, 22 PIO0_6/USB_CONNECT/SCK0, 23 PIO0_7/CTS, 24 PIO1_28/CT32B0_CAP0/SCLK, 25 PIO1_31, 26 PIO1_21/DCD/MISO1, 27 PIO0_8/MISO0/CT16B0_MAT0, 28 PIO0_9/MOSI0/CT16B0_MAT1, 29 SWCLK/PIO0_10/SCK0/CT16B0_MAT2, 30 PIO0_22/AD6/CT16B1_MAT1/MISO1, 31 PIO1_29/SCK0/CT32B0_CAP1, 32 TDI/PIO0_11/AD0/CT32B0_MAT3, 33 TMS/PIO0_12/AD1/CT32B1_CAP0, 34 TDO/PIO0_13/AD2/CT32B1_MAT0, 35 TRST/PIO0_14/AD3/CT32B1_MAT1, 36 PIO1_13/DTR/CT16B0_MAT0/TXD, 37 PIO1_14/DSR/CT16B0_MAT1/RXD, 38 PIO1_22/RI/MOSI1, 39 SWDIO/PIO0_15/AD4/CT32B1_MAT2, 40 PIO0_16/AD5/CT32B1_MAT3/WAKEUP, 41 VSS, 42 PIO0_23/AD7, 43 PIO1_15/DCD/CT16B0_MAT2/SCK1, 44 VDD, 45 PIO0_17/RTS/CT32B0_CAP0/SCLK, 46 PIO0_18/RXD/CT32B0_MAT0, 47 PIO0_19/TXD/CT32B0_MAT1, 48 PIO1_16/RI/CT16B0_CAP0

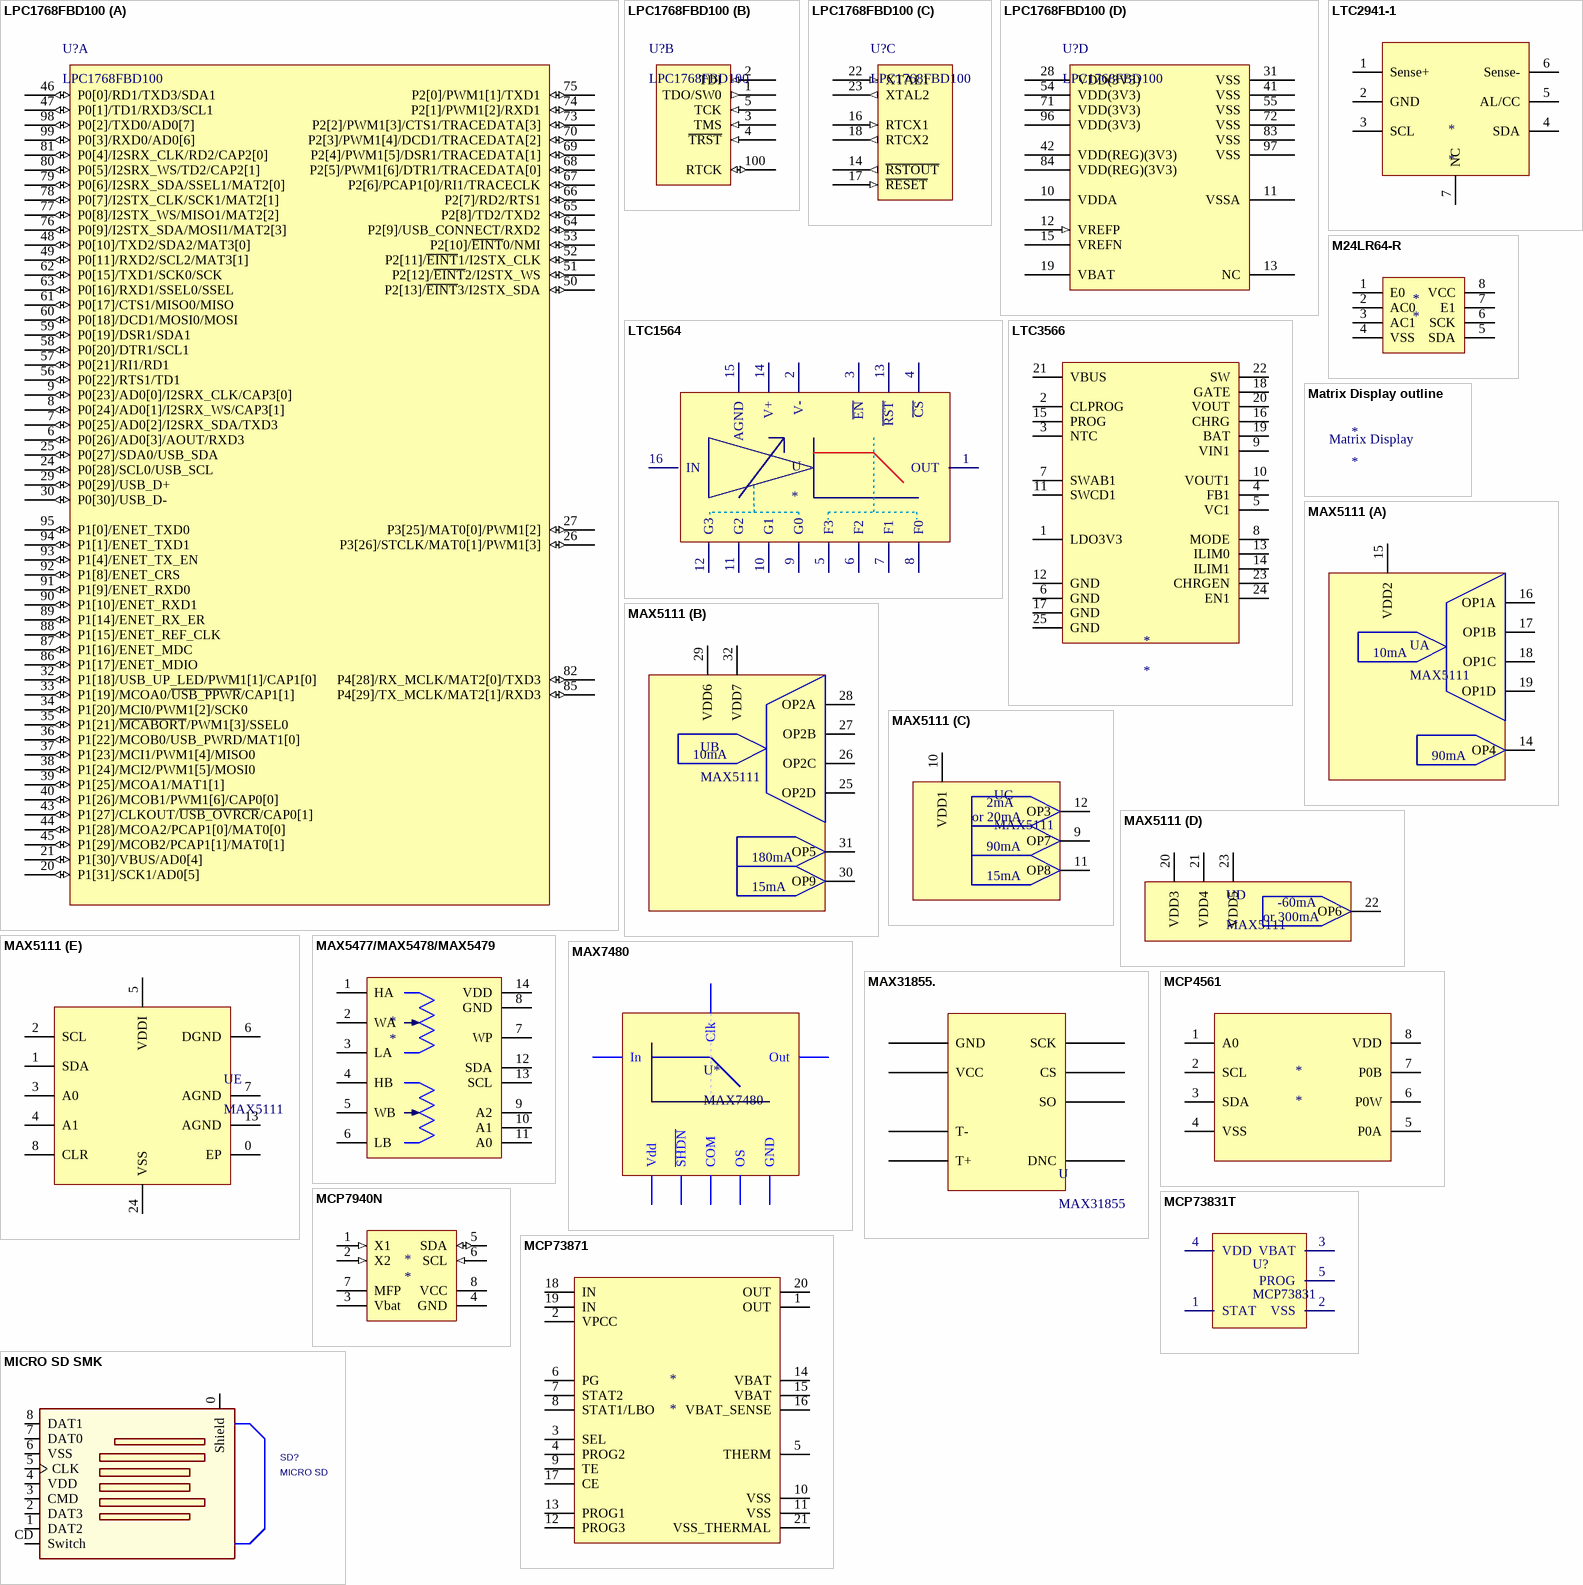
[diagram p3: symbols LPC1768FBD100 to MICRO SD SMK]

## LPC1768FBD100
designator U?
32-bit ARM Cortex-M3 microcontroller; up to 512 kB flash and 64 kB SRAM with Ethernet, USB 2.0 Host/Device/OTG, CAN; Code_IEC: 136E20; Published: 17-Aug-2007; DatasheetVersion: rev.01, Jan-2007; PackageVersion: Feb-2003; PackageReference: SOT407-1; Publisher: Altium Limited; PackageDescription: 100-Pin Plastic Low Profile Quad Flat Pack, LQFP100; Code_JEDEC: MS-026; ComponentLink1Description: Manufacturer Link; ComponentLink1URL: http://www.nxp.com/; ComponentLink2Description: Datasheet; ComponentLink2URL: http://www.standardics.nxp.com/products/lpc2000/datasheet/lpc2364.lpc2366.lpc2368.pdf
footprint SOT407-1_N (Thin QFP, 100-Leads, Body 14x14mm, Pitch 0.5mm, IPC Medium Density)
footprint SOT407-1_L (Thin QFP, 100-Leads, Body 14x14mm, Pitch 0.5mm, IPC High Density)
footprint SOT407-1_M (Thin QFP, 100-Leads, Body 14x14mm, Pitch 0.5mm, IPC Low Density)
part A pins: 6 P0[26]/AD0[3]/AOUT/RXD3 (io), 7 P0[25]/AD0[2]/I2SRX_SDA/TXD3 (io), 8 P0[24]/AD0[1]/I2SRX_WS/CAP3[1] (io), 9 P0[23]/AD0[0]/I2SRX_CLK/CAP3[0] (io), 20 P1[31]/SCK1/AD0[5] (io), 21 P1[30]/VBUS/AD0[4] (io), 24 P0[28]/SCL0/USB_SCL (io), 25 P0[27]/SDA0/USB_SDA (io), 26 P3[26]/STCLK/MAT0[1]/PWM1[3] (io), 27 P3[25]/MAT0[0]/PWM1[2] (io), 29 P0[29]/USB_D+ (io), 30 P0[30]/USB_D- (io), 32 P1[18]/USB_UP_LED/PWM1[1]/CAP1[0] (io), 33 P1[19]/MCOA0/~{USB_PPWR}/CAP1[1] (io), 34 P1[20]/MCI0/PWM1[2]/SCK0 (io), 35 P1[21]/~{MCABORT}/PWM1[3]/SSEL0 (io), 36 P1[22]/MCOB0/USB_PWRD/MAT1[0] (io), 37 P1[23]/MCI1/PWM1[4]/MISO0 (io), 38 P1[24]/MCI2/PWM1[5]/MOSI0 (io), 39 P1[25]/MCOA1/MAT1[1] (io), 40 P1[26]/MCOB1/PWM1[6]/CAP0[0] (io), 43 P1[27]/CLKOUT/~{USB_OVRCR}/CAP0[1] (io), 44 P1[28]/MCOA2/PCAP1[0]/MAT0[0] (io), 45 P1[29]/MCOB2/PCAP1[1]/MAT0[1] (io), 46 P0[0]/RD1/TXD3/SDA1 (io), 47 P0[1]/TD1/RXD3/SCL1 (io), 48 P0[10]/TXD2/SDA2/MAT3[0] (io), 49 P0[11]/RXD2/SCL2/MAT3[1] (io), 50 P2[13]/~{EINT}3/I2STX_SDA (io), 51 P2[12]/~{EINT}2/I2STX_WS (io), 52 P2[11]/~{EINT}1/I2STX_CLK (io), 53 P2[10]/~{EINT}0/NMI (io), 56 P0[22]/RTS1/TD1 (io), 57 P0[21]/RI1/RD1 (io), 58 P0[20]/DTR1/SCL1 (io), 59 P0[19]/DSR1/SDA1 (io), 60 P0[18]/DCD1/MOSI0/MOSI (io), 61 P0[17]/CTS1/MISO0/MISO (io), 62 P0[15]/TXD1/SCK0/SCK (io), 63 P0[16]/RXD1/SSEL0/SSEL (io), 64 P2[9]/USB_CONNECT/RXD2 (io), 65 P2[8]/TD2/TXD2 (io), 66 P2[7]/RD2/RTS1 (io), 67 P2[6]/PCAP1[0]/RI1/TRACECLK (io), 68 P2[5]/PWM1[6]/DTR1/TRACEDATA[0] (io), 69 P2[4]/PWM1[5]/DSR1/TRACEDATA[1] (io), 70 P2[3]/PWM1[4]/DCD1/TRACEDATA[2] (io), 73 P2[2]/PWM1[3]/CTS1/TRACEDATA[3] (io), 74 P2[1]/PWM1[2]/RXD1 (io), 75 P2[0]/PWM1[1]/TXD1 (io), 76 P0[9]/I2STX_SDA/MOSI1/MAT2[3] (io), 77 P0[8]/I2STX_WS/MISO1/MAT2[2] (io), 78 P0[7]/I2STX_CLK/SCK1/MAT2[1] (io), 79 P0[6]/I2SRX_SDA/SSEL1/MAT2[0] (io), 80 P0[5]/I2SRX_WS/TD2/CAP2[1] (io), 81 P0[4]/I2SRX_CLK/RD2/CAP2[0] (io), 82 P4[28]/RX_MCLK/MAT2[0]/TXD3 (io), 85 P4[29]/TX_MCLK/MAT2[1]/RXD3 (io), 86 P1[17]/ENET_MDIO (io), 87 P1[16]/ENET_MDC (io), 88 P1[15]/ENET_REF_CLK (io), 89 P1[14]/ENET_RX_ER (io), 90 P1[10]/ENET_RXD1 (io), 91 P1[9]/ENET_RXD0 (io), 92 P1[8]/ENET_CRS (io), 93 P1[4]/ENET_TX_EN (io), 94 P1[1]/ENET_TXD1 (io), 95 P1[0]/ENET_TXD0 (io), 98 P0[2]/TXD0/AD0[7] (io), 99 P0[3]/RXD0/AD0[6] (io)
part B pins: 1 TDO/SW0 (out), 2 TDI (in), 3 TMS (in), 4 ~{TRST} (in), 5 TCK (in), 100 RTCK (io)
part C pins: 14 ~{RSTOUT} (out), 16 RTCX1 (in), 17 ~{RESET} (in), 18 RTCX2 (out), 22 XTAL1 (in), 23 XTAL2 (out)
part D pins: 10 VDDA (power), 11 VSSA (power), 12 VREFP (in), 13 NC (power), 15 VREFN (power), 19 VBAT (power), 28 VDD(3V3) (power), 31 VSS (power), 41 VSS (power), 42 VDD(REG)(3V3) (power), 54 VDD(3V3) (power), 55 VSS (power), 71 VDD(3V3) (power), 72 VSS (power), 83 VSS (power), 84 VDD(REG)(3V3) (power), 96 VDD(3V3) (power), 97 VSS (power)

## LTC1564
designator U
10kHz to 150kHz Digitally Controlled Antialiasing Filter and 4-Bit P.G.A
footprint GN16 (SSOP; 16 Leads; Body Width 3.9 mm; Pitch 0.635 mm)
pins: 1 OUT "Analog Out", 2 V- "Negative Supply", 3 ~{EN} "Enable Output", 4 ~{CS} "CS / Hold", 5 F3 "Frequency Control 3 (MSB)", 6 F2 "Frequency Control 2", 7 F1 "Frequency Control 1", 8 F0 "Frequency Control 0 (LSB)", 9 G0 "Gain Control 0 (LSB)", 10 G1 "Gain Control 1", 11 G2 "Gain Control 2", 12 G3 "Gain Control 3 (MSB)", 13 ~{RST} "Reset Input", 14 V+ "Positive Supply", 15 AGND "Analog GND", 16 IN "Analog IN"

## LTC2941-1
designator *
footprint QFN6
pins: 1 Sense+, 2 GND, 3 SCL, 4 SDA, 5 AL/CC, 6 Sense-, 7 NC

## LTC3566
designator *
footprint QFN24
pins: 1 LDO3V3, 2 CLPROG, 3 NTC, 4 FB1, 5 VC1, 6 GND, 7 SWAB1, 8 MODE, 9 VIN1, 10 VOUT1, 11 SWCD1, 12 GND, 13 ILIM0, 14 ILIM1, 15 PROG, 16 CHRG, 17 GND, 18 GATE, 19 BAT, 20 VOUT, 21 VBUS, 22 SW, 23 CHRGEN, 24 EN1, 25 GND

## M24LR64-R
designator *
64 Kbit EEPROM with password protection & dual interface:  400 kHz I²C serial bus & ISO 15693 RF protocol at 13.56 MHz
footprint SO8
footprint TSSOP8 ST
pins: 1 E0 "Chip Enable", 2 AC0 "ANTENNA COILS", 3 AC1 "ANTENNA COILS", 4 VSS "GND", 5 SDA "I2C DATA", 6 SCK "I2C CLOCK", 7 E1 "Chip Enable", 8 VCC "POWER"

## Matrix Display outline
designator *
footprint LCD MATRIX 16*32 (Medium 16x32 RGB LED matrix panel)
text: Matrix Display

## MAX5111
designator U
9-Channel, 14-Bit, Current DAC  with I2C Interface
footprint 32 TQFN-EP Maxim (QFN, 32-Leads, Body 5.1x5.1mm (max), Pitch 0.50mm, IPC Low Density)
part A pins: 14 OP4 "DAC 4 Output, 90mA Full Scale", 15 VDD2 "DAC 1 Output and DAC 4 Output Positive Power Supply", 16 OP1A "DAC 1 Multiplexer Output A, 10mA Full Scale", 17 OP1B "DAC 1 Multiplexer Output B, 10mA Full Scale", 18 OP1C "DAC 1 Multiplexer Output C, 10mA Full Scale", 19 OP1D "DAC 1 Multiplexer Output D, 10mA Full Scale"
part B pins: 25 OP2D "DAC 2 Multiplexer Output D, 10mA Full Scale", 26 OP2C "DAC 2 Multiplexer Output C, 10mA Full Scale", 27 OP2B "DAC 2 Multiplexer Output B, 10mA Full Scale", 28 OP2A "DAC 2 Multiplexer Output A, 10mA Full Scale", 29 VDD6 "DAC 5 Output and DAC 2 Output Positive Power Supply (TQFN). Internally connected to VDD7 and VDD10.", 30 OP9 "DAC 9 Output, 15mA Full Scale", 31 OP5 "DAC 5 Output, 180mA Full Scale", 32 VDD7 "DAC 5 Output Positive Power Supply. Internally connected to VDD6 and VDD10"
part C pins: 9 OP7 "DAC 7 Output, 90mA Full Scale", 10 VDD1 "DAC 3 Output and DAC 7 Output and DAC8 Output Positive Power Supply", 11 OP8 "DAC 8 Output, 15mA Full Scale", 12 OP3 "DAC 3 Output, 2mA or 20mA Full Scale"
part D pins: 20 VDD3 "DAC 6 Output Positive Power Supply. Internally connected to VDD5 and VDD4", 21 VDD4 "DAC 6 Output Positive Power Supply. Internally connected to VDD5 and VDD3", 22 OP6 "DAC 6 Output, -60mA or 300mA Full Scale", 23 VDD5 "DAC 6 Output Positive Power Supply. Internally connected to VDD3 and VDD4"
part E pins: 0 EP "Exposed Pad. Internally connected to AGND. Connect to a ground", 1 SDA "I2C Bidirectional Serial Data", 2 SCL "I2C Clock Input", 3 A0 "I2C Address Bit 0", 4 A1 "I2C Address Bit 1", 5 VDDI "Interface Power Supply. Connect to VDD or to a separate supply to allow for a different interface voltage.", 6 DGND "Digital Ground", 7 AGND "Analog Ground", 8 CLR "Active High Clear", 13 AGND "Analog Ground", 24 VSS "Negative Power Supply"
part A text: 10mA; 90mA
part B text: 10mA; 180mA; 15mA
part C text: 2mA; or 20mA; 90mA; 15mA
part D text: -60mA; or 300mA

## MAX5477/MAX5478/MAX5479
designator *
Dual, 256-Tap, Nonvolatile,  I2 C-Interface, Digital Potentiometers; VARIANT: MAX547X; Rfullscale: 10k,50k,100k
footprint TSSOP14 (TSSOP;14 pin;33.4 mm²  4.40mm body MAXIM U14+1)
pins: 1 HA "Potentiometer A High Terminal", 2 WA "Potentiometer A Wiper Terminal", 3 LA "Potentiometer A LOW Terminal", 4 HB "Potentiometer B High Terminal", 5 WB "Potentiometer B Wiper Terminal", 6 LB "Potentiometer B LOW Terminal", 7 WP "WRITE PROTECT", 8 GND, 9 A2 "Address Input", 10 A1 "Address Input", 11 A0 "Address Input", 12 SDA "I2C Serial Data", 13 SCL "I2C Clock Input", 14 VDD "POWER"

## MAX7480
designator U*
8th-Order, Lowpass, Butterworth,  Switched-Capacitor Filter
footprint NSO8_N (8-Pin Small Outline Integrated Circuit 1.27 mm Pitch, IPC Medium Density)
pins: 1 COM, 2 In "Input", 3 GND "Ground", 4 Vdd "Power", 5 Out "Output", 6 OS "Overshoot", 7 ~{SHDN} "Shutdown", 8 Clk "Clock"

## MAX31855.
designator U, comment MAX31855
footprint SO8_N (Footprint not found)
pins: 1 GND "Ground", 2 T- "Thermocouple Input. -", 3 T+ "Thermocouple Input. +", 4 VCC "Power-Supply Voltage", 5 SCK "Serial-Clock Input", 6 CS "Active-Low Chip Select. Set CS low to enable the serial interface", 7 SO "Serial-Data Output", 8 DNC "Do Not Connect"

## MCP4561
designator *
footprint TSSOP8 ST
pins: 1 A0, 2 SCL, 3 SDA, 4 VSS, 5 P0A, 6 P0W, 7 P0B, 8 VDD

## MCP7940N
designator *
Low-Cost I2C™ Real-Time Clock/Calendar  with SRAM and Battery Switchover
footprint TSSOP8 ST
pins: 1 X1 (in) "Xtal Input, External Oscillator Input", 2 X2 (in) "Xtal Output", 3 Vbat (power) "Battery Backup Input (3V Typ)", 4 GND (power) "Ground", 5 SDA (io) "Bidirectional Serial Data", 6 SCL (in) "Serial Clock", 7 MFP "Multi-Function Pin", 8 VCC "+1.8V to +5.5V Power Supply"

## MCP73831T
designator U?, comment MCP73831
Miniature Single-Cell, Fully Integrated Li-Ion,  Li-Polymer Charge Management Controllers; Manufacturer: Microchip Technology; Manufacturer Part Number: MCP73831T-2ACI/OT; Voltage - Supply: 3.75 V ~ 6 V; Supplier Device Package: SOT-23-5; Pricing: 1=0.9, 10=0.751, 25=0.6304, 100=0.5632 (CAD); Supplier: Digi-Key; RoHS: RoHS Compliant; Function: Charge Management; Category: Integrated Circuits (ICs); Operating Temperature: -40°C ~ 85°C; Package / Case: SC-74A, SOT-753; Packaging: Cut Tape (CT); Mounting Type: Surface Mount; Battery Chemistry: Li-Ion, Li-Pol; Supplier Part Number 1: MCP73831T-2ACI/OTCT-ND
footprint SOT23-5
pins: 1 STAT "Charge Status Output", 2 VSS "Battery Management 0V Reference", 3 VBAT "Battery Charge Control Output", 4 VDD "Battery Management Input Supply", 5 PROG "Current Regulation Set and Charge Control Enable"

## MCP73871
designator *
footprint QFN20
pins: 1 OUT, 2 VPCC, 3 SEL, 4 PROG2, 5 THERM, 6 PG, 7 STAT2, 8 STAT1/LBO, 9 TE, 10 VSS, 11 VSS, 12 PROG3, 13 PROG1, 14 VBAT, 15 VBAT, 16 VBAT_SENSE, 17 CE, 18 IN, 19 IN, 20 OUT, 21 VSS_THERMAL

## MICRO SD SMK
designator SD?, comment MICRO SD
footprint MICRO_SD_SMK - duplicate1 (Micro SD card holder from SMK CLE9108-4119F)
footprint MICRO_SD_SMK (Micro SD card holder from SMK CLE9108-8A93E)
footprint MICRO_SD_WE (MICRO SD CARD PUSH-PUSH  from WE  693071010811)
pins: 0 Shield (power), 1 DAT2, 2 DAT3, 3 CMD, 4 VDD (power), 5 CLK, 6 VSS (power), 7 DAT0, 8 DAT1, CD Switch

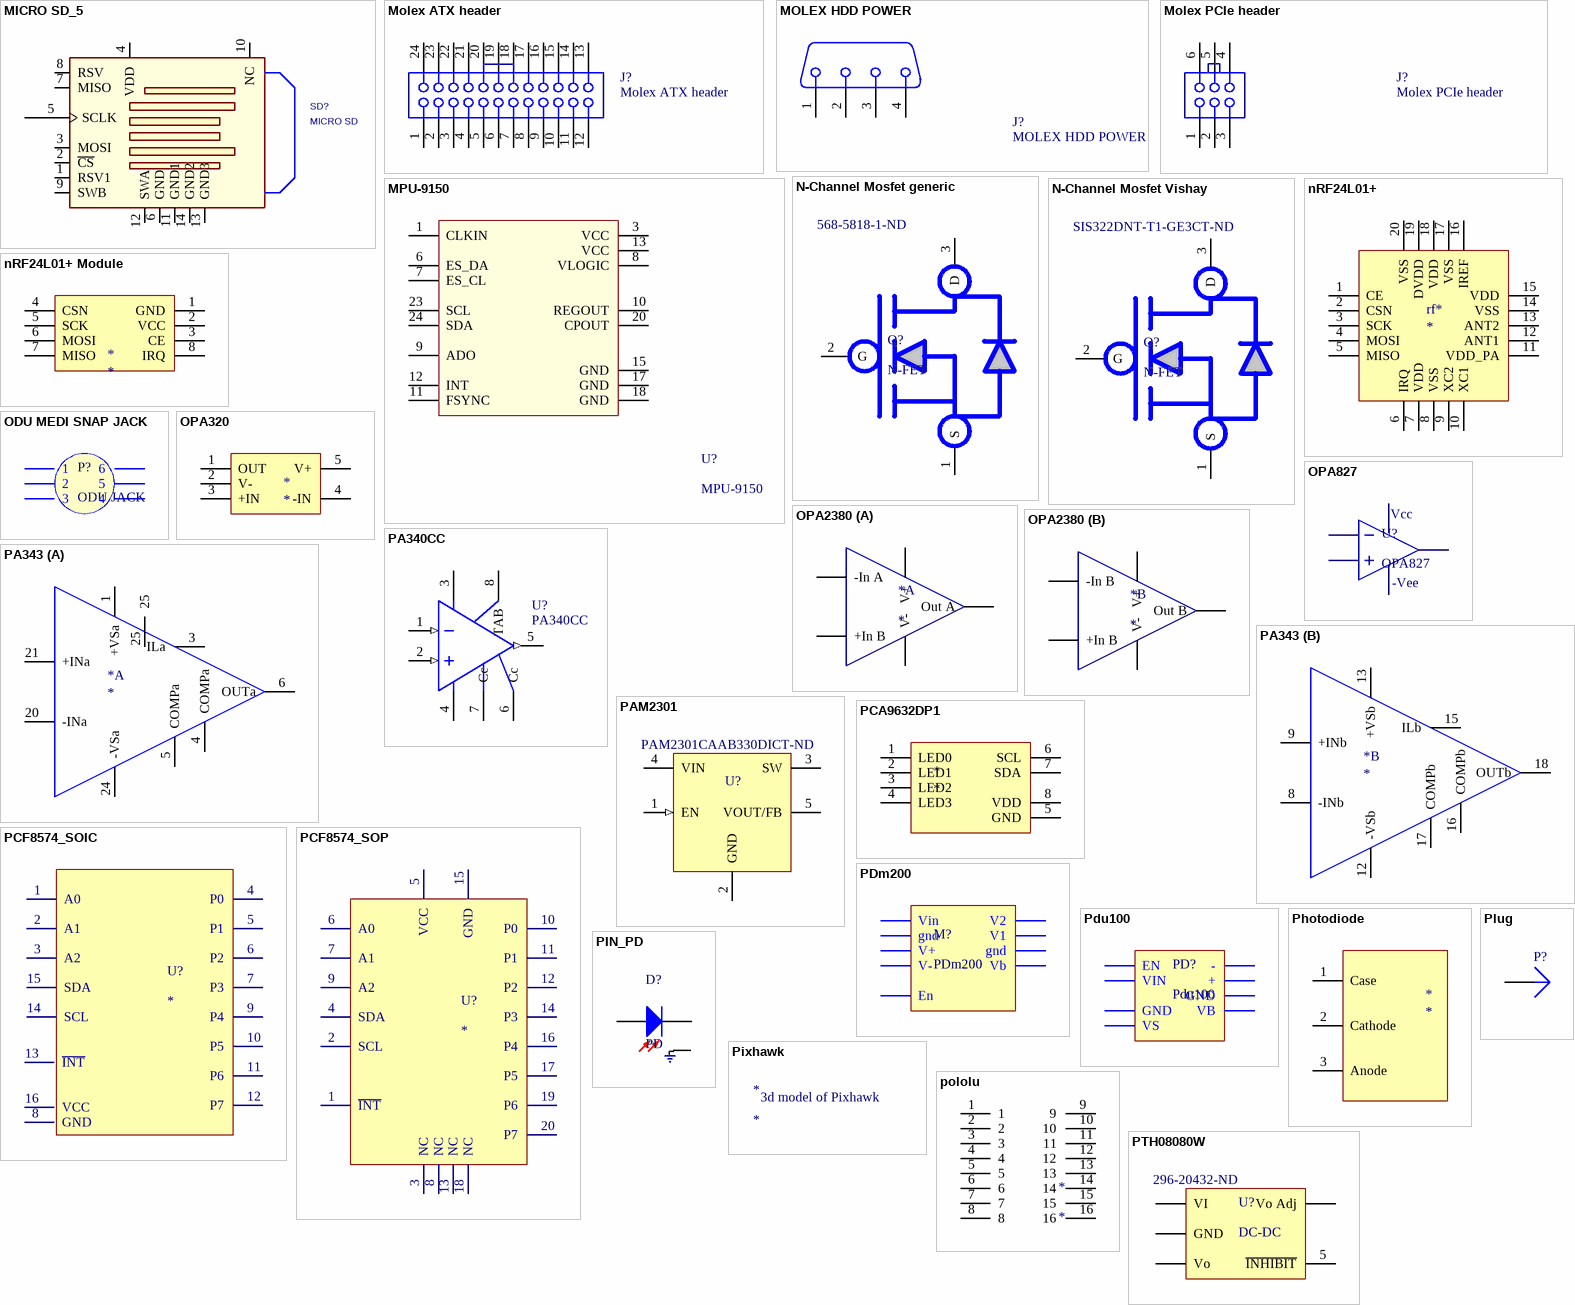
[diagram p4: symbols MICRO SD_5 to PTH08080W]

## MICRO SD_5
designator SD?, comment MICRO SD
footprint MICRO_SD_HEROSE
pins: 1 RSV1, 2 ~{CS}, 3 MOSI, 4 VDD (power), 5 SCLK, 6 GND (power), 7 MISO, 8 RSV, 9 SWB, 10 NC, 11 GND1, 12 SWA, 13 GND3, 14 GND2

## Molex ATX header
designator J?
ATX Power supply header; PackageDocument: B; Positions: 26; Published: 15-Jun-2001; LatestRevisionDate: 17-Jul-2002; LatestRevisionNote: Re-released for DXP Platform.; DatasheetDocument: 1-Oct-1983; PackageReference: 178240-4; Publisher: Altium Limited; Orientation: Right Angle
signal-integrity model Connector
footprint Molex ATX PWR RA TH
pins: 1, 2, 3, 4, 5, 6, 7, 8, 9, 10, 11, 12, 13, 14, 15, 16, 17, 18, 19, 20, 21, 22, 23, 24

## MOLEX HDD POWER
designator J?
5.08mm Pitch Disk Drive Power Connection System Header, Right Angle, Through  Hole, 4 Circuits, Lead-Free, 3.56mm PC Tail Length, with PCB Locator Peg; PackageDocument: O; Positions: 9; Gender: Receptacle; Published: 15-Jun-2001; LatestRevisionDate: 17-Jul-2002; LatestRevisionNote: Re-released for DXP Platform.; DatasheetDocument: 1-Sep-1999; PackageReference: 788750; Publisher: Altium Limited; Orientation: Right Angle
signal-integrity model Connector
footprint Molex HDD PWR RA TH (5.08mm Pitch Disk Drive Power Connection System Header, Right Angle, Through  Hole, 4 Circuits, Lead-Free, 3.56mm PC Tail Length, with PCB Locator Peg)
pins: 1, 2, 3, 4

## Molex PCIe header
designator J?
PCIe Power supply header; PackageDocument: B; Positions: 26; Published: 15-Jun-2001; LatestRevisionDate: 17-Jul-2002; LatestRevisionNote: Re-released for DXP Platform.; DatasheetDocument: 1-Oct-1983; PackageReference: 178240-4; Publisher: Altium Limited; Orientation: Right Angle
signal-integrity model Connector
footprint Molex PCIe PWR RA TH (45558-0003  PCIE PWR Mini-Fit® Jr. Header, Dual Row, Right Angle, 6 Circuits, PA Polyamide Nylon 6/6  94V-0, Tin (Sn) Plating, without Drain Holes)
pins: 1, 2, 3, 4, 5, 6